# Altium integrated library Microchip PIC18.IntLib: 1897 symbols (part 31 of 110)
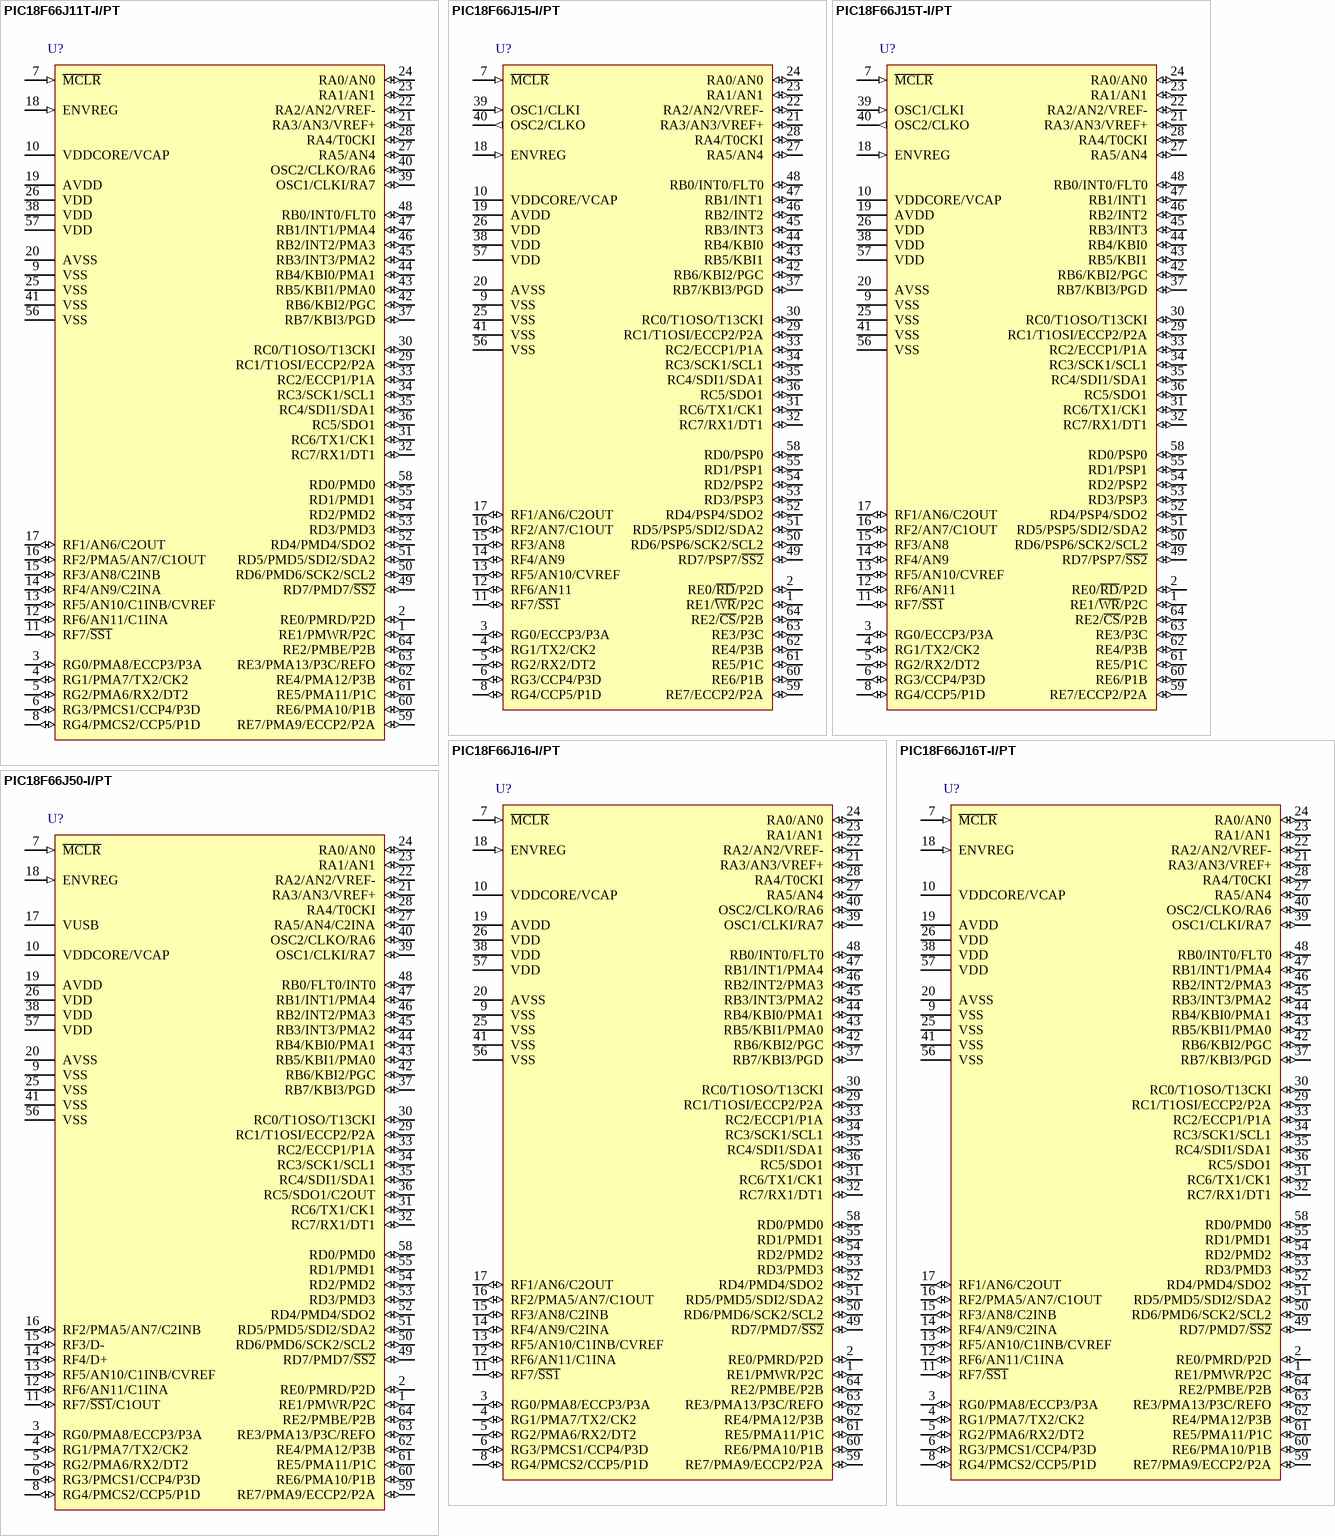
[diagram p238: symbols PIC18F66J11T-I/PT to PIC18F66J50-I/PT]

## PIC18F66J16-I/PT
designator U?
High Performance, 1-Mbit Flash Microcontroller with nanoWatt Technology, 96K Flash, 64-Pin TQFP, Industrial Temperature Range; Manufacturer: Microchip; PartNumber: PIC18F66J16-I/PT; DatasheetVersion: revD, Oct-2009; PackageVersion: C04-085B, 12/2012; PackageReference: TQFP-PT64; PackageDescription: 64-Lead Plastic Thin Quad FlatPack, 10 x 10 mm Body, 0.5 mm Pitch; ComponentLink1Description: Manufacturer URL; ComponentLink1URL: http://www.microchip.com/; ComponentLink2Description: Datasheet; ComponentLink2URL: http://ww1.microchip.com/downloads/en/DeviceDoc/39778d.pdf; ComponentLink3Description: Package Specification; ComponentLink3URL: http://www.microchip.com/stellent/groups/techpub_sg/documents/packagingspec/en012702.pdf
footprint MCHP-TQFP-PT64_N (TQFP, 64-Leads, Body 10x10mm, Pitch 0.5mm, IPC Medium Density)
footprint MCHP-TQFP-PT64_L (TQFP, 64-Leads, Body 10x10mm, Pitch 0.5mm, IPC High Density)
footprint MCHP-TQFP-PT64_M (TQFP, 64-Leads, Body 10x10mm, Pitch 0.5mm, IPC Low Density)
pins: 1 RE1/PMWR/P2C (io), 2 RE0/PMRD/P2D (io), 3 RG0/PMA8/ECCP3/P3A (io), 4 RG1/PMA7/TX2/CK2 (io), 5 RG2/PMA6/RX2/DT2 (io), 6 RG3/PMCS1/CCP4/P3D (io), 7 ~{MCLR} (in), 8 RG4/PMCS2/CCP5/P1D (io), 9 VSS (power), 10 VDDCORE/VCAP (power), 11 RF7/~{SS1} (io), 12 RF6/AN11/C1INA (io), 13 RF5/AN10/C1INB/CVREF (io), 14 RF4/AN9/C2INA (io), 15 RF3/AN8/C2INB (io), 16 RF2/PMA5/AN7/C1OUT (io), 17 RF1/AN6/C2OUT (io), 18 ENVREG (in), 19 AVDD (power), 20 AVSS (power), 21 RA3/AN3/VREF+ (io), 22 RA2/AN2/VREF- (io), 23 RA1/AN1 (io), 24 RA0/AN0 (io), 25 VSS (power), 26 VDD (power), 27 RA5/AN4 (io), 28 RA4/T0CKI (io), 29 RC1/T1OSI/ECCP2/P2A (io), 30 RC0/T1OSO/T13CKI (io), 31 RC6/TX1/CK1 (io), 32 RC7/RX1/DT1 (io), 33 RC2/ECCP1/P1A (io), 34 RC3/SCK1/SCL1 (io), 35 RC4/SDI1/SDA1 (io), 36 RC5/SDO1 (io), 37 RB7/KBI3/PGD (io), 38 VDD (power), 39 OSC1/CLKI/RA7 (io), 40 OSC2/CLKO/RA6 (io), 41 VSS (power), 42 RB6/KBI2/PGC (io), 43 RB5/KBI1/PMA0 (io), 44 RB4/KBI0/PMA1 (io), 45 RB3/INT3/PMA2 (io), 46 RB2/INT2/PMA3 (io), 47 RB1/INT1/PMA4 (io), 48 RB0/INT0/FLT0 (io), 49 RD7/PMD7/~{SS2} (io), 50 RD6/PMD6/SCK2/SCL2 (io), 51 RD5/PMD5/SDI2/SDA2 (io), 52 RD4/PMD4/SDO2 (io), 53 RD3/PMD3 (io), 54 RD2/PMD2 (io), 55 RD1/PMD1 (io), 56 VSS (power), 57 VDD (power), 58 RD0/PMD0 (io), 59 RE7/PMA9/ECCP2/P2A (io), 60 RE6/PMA10/P1B (io), 61 RE5/PMA11/P1C (io), 62 RE4/PMA12/P3B (io), 63 RE3/PMA13/P3C/REFO (io), 64 RE2/PMBE/P2B (io)

## PIC18F66J16T-I/PT
designator U?
High Performance, 1-Mbit Flash Microcontroller with nanoWatt Technology, 96K Flash, 64-Pin TQFP, Industrial Temperature Range, Tape and Reel; Manufacturer: Microchip; PartNumber: PIC18F66J16T-I/PT; DatasheetVersion: revD, Oct-2009; PackageVersion: C04-085B, 12/2012; PackageReference: TQFP-PT64; PackageDescription: 64-Lead Plastic Thin Quad FlatPack, 10 x 10 mm Body, 0.5 mm Pitch; ComponentLink1Description: Manufacturer URL; ComponentLink1URL: http://www.microchip.com/; ComponentLink2Description: Datasheet; ComponentLink2URL: http://ww1.microchip.com/downloads/en/DeviceDoc/39778d.pdf; ComponentLink3Description: Package Specification; ComponentLink3URL: http://www.microchip.com/stellent/groups/techpub_sg/documents/packagingspec/en012702.pdf
footprint MCHP-TQFP-PT64_N (TQFP, 64-Leads, Body 10x10mm, Pitch 0.5mm, IPC Medium Density)
footprint MCHP-TQFP-PT64_L (TQFP, 64-Leads, Body 10x10mm, Pitch 0.5mm, IPC High Density)
footprint MCHP-TQFP-PT64_M (TQFP, 64-Leads, Body 10x10mm, Pitch 0.5mm, IPC Low Density)
pins: 1 RE1/PMWR/P2C (io), 2 RE0/PMRD/P2D (io), 3 RG0/PMA8/ECCP3/P3A (io), 4 RG1/PMA7/TX2/CK2 (io), 5 RG2/PMA6/RX2/DT2 (io), 6 RG3/PMCS1/CCP4/P3D (io), 7 ~{MCLR} (in), 8 RG4/PMCS2/CCP5/P1D (io), 9 VSS (power), 10 VDDCORE/VCAP (power), 11 RF7/~{SS1} (io), 12 RF6/AN11/C1INA (io), 13 RF5/AN10/C1INB/CVREF (io), 14 RF4/AN9/C2INA (io), 15 RF3/AN8/C2INB (io), 16 RF2/PMA5/AN7/C1OUT (io), 17 RF1/AN6/C2OUT (io), 18 ENVREG (in), 19 AVDD (power), 20 AVSS (power), 21 RA3/AN3/VREF+ (io), 22 RA2/AN2/VREF- (io), 23 RA1/AN1 (io), 24 RA0/AN0 (io), 25 VSS (power), 26 VDD (power), 27 RA5/AN4 (io), 28 RA4/T0CKI (io), 29 RC1/T1OSI/ECCP2/P2A (io), 30 RC0/T1OSO/T13CKI (io), 31 RC6/TX1/CK1 (io), 32 RC7/RX1/DT1 (io), 33 RC2/ECCP1/P1A (io), 34 RC3/SCK1/SCL1 (io), 35 RC4/SDI1/SDA1 (io), 36 RC5/SDO1 (io), 37 RB7/KBI3/PGD (io), 38 VDD (power), 39 OSC1/CLKI/RA7 (io), 40 OSC2/CLKO/RA6 (io), 41 VSS (power), 42 RB6/KBI2/PGC (io), 43 RB5/KBI1/PMA0 (io), 44 RB4/KBI0/PMA1 (io), 45 RB3/INT3/PMA2 (io), 46 RB2/INT2/PMA3 (io), 47 RB1/INT1/PMA4 (io), 48 RB0/INT0/FLT0 (io), 49 RD7/PMD7/~{SS2} (io), 50 RD6/PMD6/SCK2/SCL2 (io), 51 RD5/PMD5/SDI2/SDA2 (io), 52 RD4/PMD4/SDO2 (io), 53 RD3/PMD3 (io), 54 RD2/PMD2 (io), 55 RD1/PMD1 (io), 56 VSS (power), 57 VDD (power), 58 RD0/PMD0 (io), 59 RE7/PMA9/ECCP2/P2A (io), 60 RE6/PMA10/P1B (io), 61 RE5/PMA11/P1C (io), 62 RE4/PMA12/P3B (io), 63 RE3/PMA13/P3C/REFO (io), 64 RE2/PMBE/P2B (io)

## PIC18F66J50-I/PT
designator U?
High Performance, 1-Mbit Flash USB Microcontroller with nanoWatt Technology, 64K Flash, 64-Pin TQFP, Industrial Temperature Range; Manufacturer: Microchip; PartNumber: PIC18F66J50-I/PT; DatasheetVersion: revC, Oct-2009; PackageVersion: C04-085B, 12/2012; PackageReference: TQFP-PT64; PackageDescription: 64-Lead Plastic Thin Quad FlatPack, 10 x 10 mm Body, 0.5 mm Pitch; ComponentLink1Description: Manufacturer URL; ComponentLink1URL: http://www.microchip.com/; ComponentLink2Description: Datasheet; ComponentLink2URL: http://ww1.microchip.com/downloads/en/DeviceDoc/39775c.pdf; ComponentLink3Description: Package Specification; ComponentLink3URL: http://www.microchip.com/stellent/groups/techpub_sg/documents/packagingspec/en012702.pdf
footprint MCHP-TQFP-PT64_N (TQFP, 64-Leads, Body 10x10mm, Pitch 0.5mm, IPC Medium Density)
footprint MCHP-TQFP-PT64_L (TQFP, 64-Leads, Body 10x10mm, Pitch 0.5mm, IPC High Density)
footprint MCHP-TQFP-PT64_M (TQFP, 64-Leads, Body 10x10mm, Pitch 0.5mm, IPC Low Density)
pins: 1 RE1/PMWR/P2C (io), 2 RE0/PMRD/P2D (io), 3 RG0/PMA8/ECCP3/P3A (io), 4 RG1/PMA7/TX2/CK2 (io), 5 RG2/PMA6/RX2/DT2 (io), 6 RG3/PMCS1/CCP4/P3D (io), 7 ~{MCLR} (in), 8 RG4/PMCS2/CCP5/P1D (io), 9 VSS (power), 10 VDDCORE/VCAP (power), 11 RF7/~{SS1}/C1OUT (io), 12 RF6/AN11/C1INA (io), 13 RF5/AN10/C1INB/CVREF (io), 14 RF4/D+ (io), 15 RF3/D- (io), 16 RF2/PMA5/AN7/C2INB (io), 17 VUSB (power), 18 ENVREG (in), 19 AVDD (power), 20 AVSS (power), 21 RA3/AN3/VREF+ (io), 22 RA2/AN2/VREF- (io), 23 RA1/AN1 (io), 24 RA0/AN0 (io), 25 VSS (power), 26 VDD (power), 27 RA5/AN4/C2INA (io), 28 RA4/T0CKI (io), 29 RC1/T1OSI/ECCP2/P2A (io), 30 RC0/T1OSO/T13CKI (io), 31 RC6/TX1/CK1 (io), 32 RC7/RX1/DT1 (io), 33 RC2/ECCP1/P1A (io), 34 RC3/SCK1/SCL1 (io), 35 RC4/SDI1/SDA1 (io), 36 RC5/SDO1/C2OUT (io), 37 RB7/KBI3/PGD (io), 38 VDD (power), 39 OSC1/CLKI/RA7 (io), 40 OSC2/CLKO/RA6 (io), 41 VSS (power), 42 RB6/KBI2/PGC (io), 43 RB5/KBI1/PMA0 (io), 44 RB4/KBI0/PMA1 (io), 45 RB3/INT3/PMA2 (io), 46 RB2/INT2/PMA3 (io), 47 RB1/INT1/PMA4 (io), 48 RB0/FLT0/INT0 (io), 49 RD7/PMD7/~{SS2} (io), 50 RD6/PMD6/SCK2/SCL2 (io), 51 RD5/PMD5/SDI2/SDA2 (io), 52 RD4/PMD4/SDO2 (io), 53 RD3/PMD3 (io), 54 RD2/PMD2 (io), 55 RD1/PMD1 (io), 56 VSS (power), 57 VDD (power), 58 RD0/PMD0 (io), 59 RE7/PMA9/ECCP2/P2A (io), 60 RE6/PMA10/P1B (io), 61 RE5/PMA11/P1C (io), 62 RE4/PMA12/P3B (io), 63 RE3/PMA13/P3C/REFO (io), 64 RE2/PMBE/P2B (io)

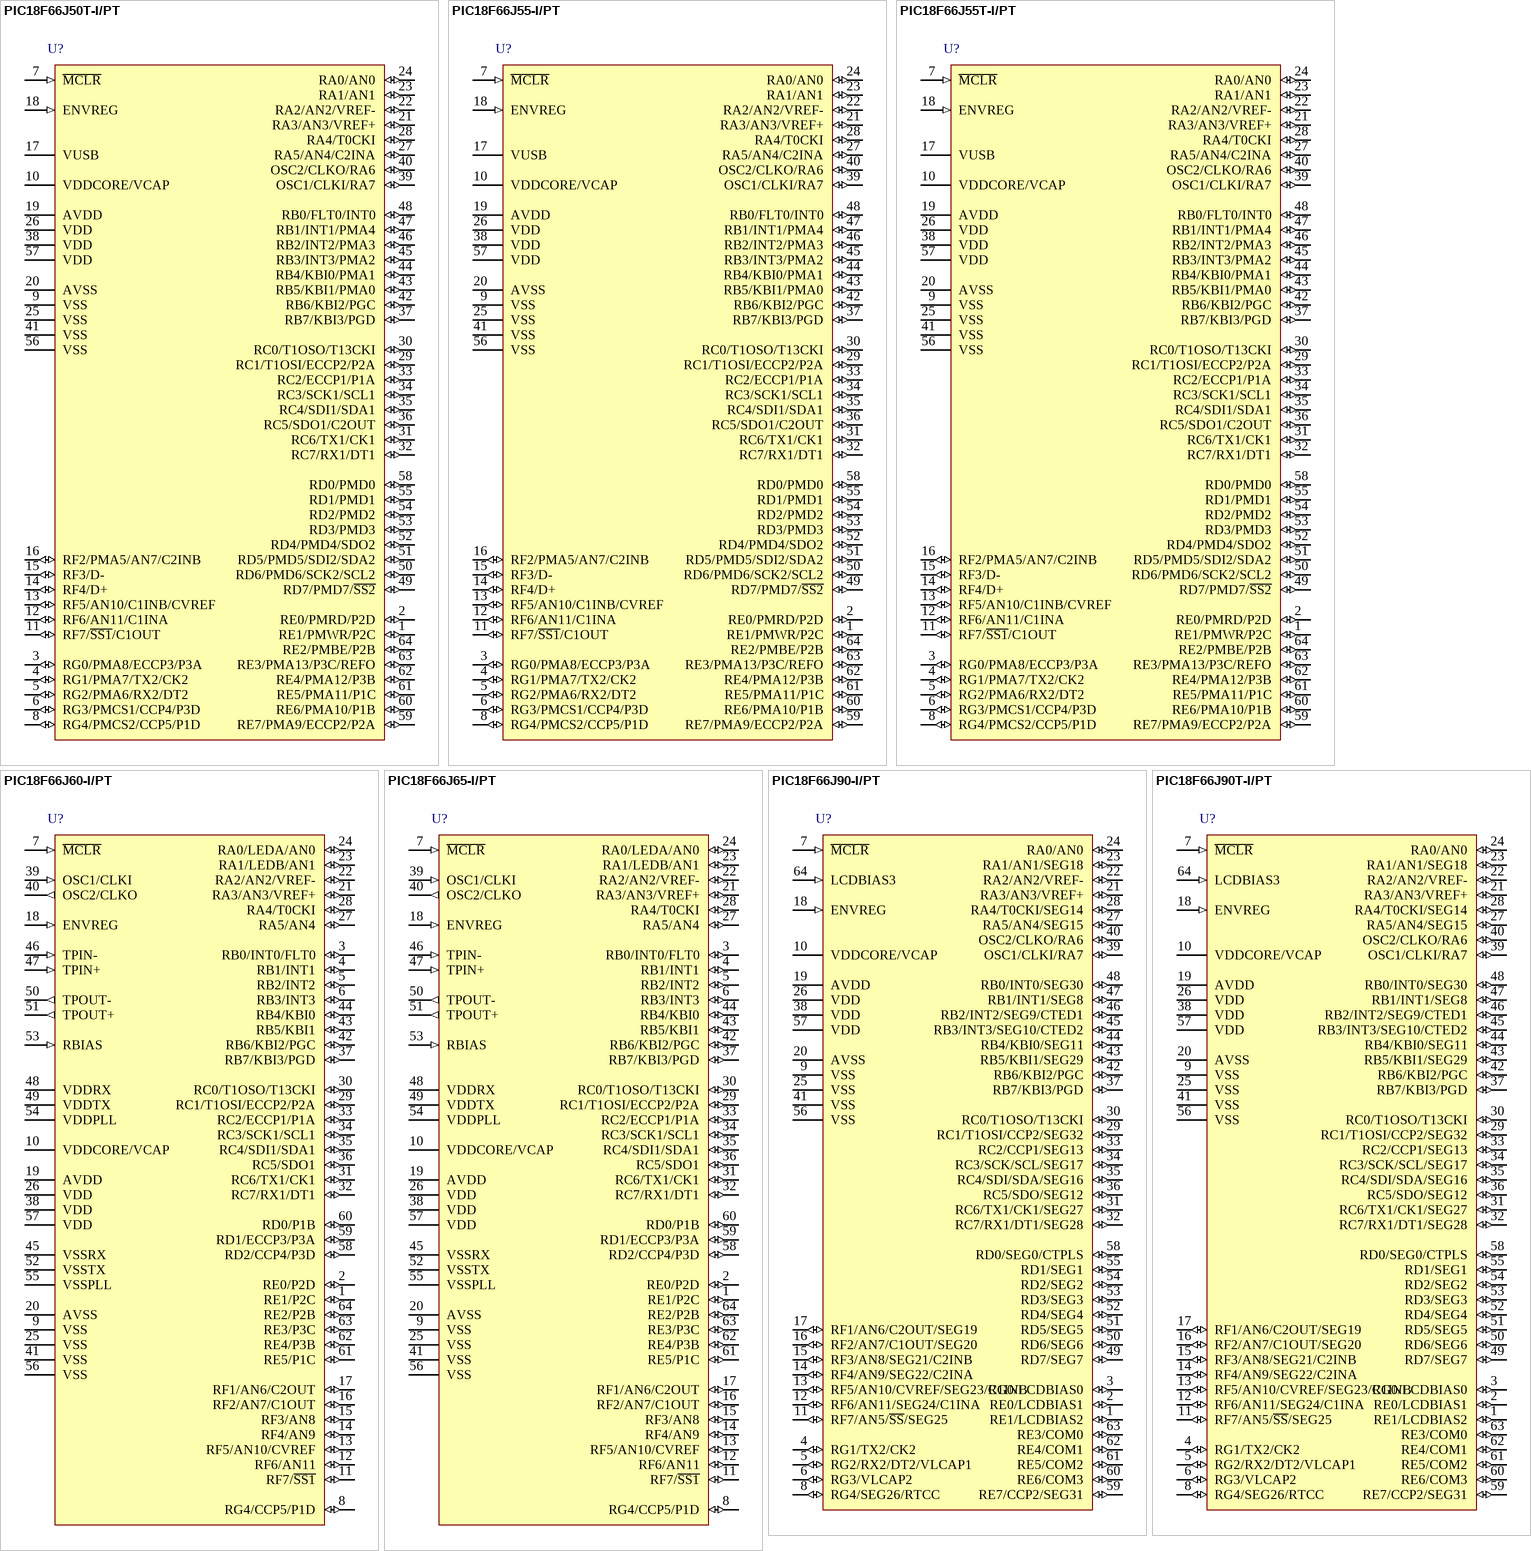
[diagram p50: symbols PIC18F66J50T-I/PT to PIC18F66J90T-I/PT]

## PIC18F66J50T-I/PT
designator U?
High Performance, 1-Mbit Flash USB Microcontroller with nanoWatt Technology, 64K Flash, 64-Pin TQFP, Industrial Temperature Range, Tape and Reel; Manufacturer: Microchip; PartNumber: PIC18F66J50T-I/PT; DatasheetVersion: revC, Oct-2009; PackageVersion: C04-085B, 12/2012; PackageReference: TQFP-PT64; PackageDescription: 64-Lead Plastic Thin Quad FlatPack, 10 x 10 mm Body, 0.5 mm Pitch; ComponentLink1Description: Manufacturer URL; ComponentLink1URL: http://www.microchip.com/; ComponentLink2Description: Datasheet; ComponentLink2URL: http://ww1.microchip.com/downloads/en/DeviceDoc/39775c.pdf; ComponentLink3Description: Package Specification; ComponentLink3URL: http://www.microchip.com/stellent/groups/techpub_sg/documents/packagingspec/en012702.pdf
footprint MCHP-TQFP-PT64_N (TQFP, 64-Leads, Body 10x10mm, Pitch 0.5mm, IPC Medium Density)
footprint MCHP-TQFP-PT64_L (TQFP, 64-Leads, Body 10x10mm, Pitch 0.5mm, IPC High Density)
footprint MCHP-TQFP-PT64_M (TQFP, 64-Leads, Body 10x10mm, Pitch 0.5mm, IPC Low Density)
pins: 1 RE1/PMWR/P2C (io), 2 RE0/PMRD/P2D (io), 3 RG0/PMA8/ECCP3/P3A (io), 4 RG1/PMA7/TX2/CK2 (io), 5 RG2/PMA6/RX2/DT2 (io), 6 RG3/PMCS1/CCP4/P3D (io), 7 ~{MCLR} (in), 8 RG4/PMCS2/CCP5/P1D (io), 9 VSS (power), 10 VDDCORE/VCAP (power), 11 RF7/~{SS1}/C1OUT (io), 12 RF6/AN11/C1INA (io), 13 RF5/AN10/C1INB/CVREF (io), 14 RF4/D+ (io), 15 RF3/D- (io), 16 RF2/PMA5/AN7/C2INB (io), 17 VUSB (power), 18 ENVREG (in), 19 AVDD (power), 20 AVSS (power), 21 RA3/AN3/VREF+ (io), 22 RA2/AN2/VREF- (io), 23 RA1/AN1 (io), 24 RA0/AN0 (io), 25 VSS (power), 26 VDD (power), 27 RA5/AN4/C2INA (io), 28 RA4/T0CKI (io), 29 RC1/T1OSI/ECCP2/P2A (io), 30 RC0/T1OSO/T13CKI (io), 31 RC6/TX1/CK1 (io), 32 RC7/RX1/DT1 (io), 33 RC2/ECCP1/P1A (io), 34 RC3/SCK1/SCL1 (io), 35 RC4/SDI1/SDA1 (io), 36 RC5/SDO1/C2OUT (io), 37 RB7/KBI3/PGD (io), 38 VDD (power), 39 OSC1/CLKI/RA7 (io), 40 OSC2/CLKO/RA6 (io), 41 VSS (power), 42 RB6/KBI2/PGC (io), 43 RB5/KBI1/PMA0 (io), 44 RB4/KBI0/PMA1 (io), 45 RB3/INT3/PMA2 (io), 46 RB2/INT2/PMA3 (io), 47 RB1/INT1/PMA4 (io), 48 RB0/FLT0/INT0 (io), 49 RD7/PMD7/~{SS2} (io), 50 RD6/PMD6/SCK2/SCL2 (io), 51 RD5/PMD5/SDI2/SDA2 (io), 52 RD4/PMD4/SDO2 (io), 53 RD3/PMD3 (io), 54 RD2/PMD2 (io), 55 RD1/PMD1 (io), 56 VSS (power), 57 VDD (power), 58 RD0/PMD0 (io), 59 RE7/PMA9/ECCP2/P2A (io), 60 RE6/PMA10/P1B (io), 61 RE5/PMA11/P1C (io), 62 RE4/PMA12/P3B (io), 63 RE3/PMA13/P3C/REFO (io), 64 RE2/PMBE/P2B (io)

## PIC18F66J55-I/PT
designator U?
High Performance, 1-Mbit Flash USB Microcontroller with nanoWatt Technology, 96K Flash, 64-Pin TQFP, Industrial Temperature Range; Manufacturer: Microchip; PartNumber: PIC18F66J55-I/PT; DatasheetVersion: revC, Oct-2009; PackageVersion: C04-085B, 12/2012; PackageReference: TQFP-PT64; PackageDescription: 64-Lead Plastic Thin Quad FlatPack, 10 x 10 mm Body, 0.5 mm Pitch; ComponentLink1Description: Manufacturer URL; ComponentLink1URL: http://www.microchip.com/; ComponentLink2Description: Datasheet; ComponentLink2URL: http://ww1.microchip.com/downloads/en/DeviceDoc/39775c.pdf; ComponentLink3Description: Package Specification; ComponentLink3URL: http://www.microchip.com/stellent/groups/techpub_sg/documents/packagingspec/en012702.pdf
footprint MCHP-TQFP-PT64_N (TQFP, 64-Leads, Body 10x10mm, Pitch 0.5mm, IPC Medium Density)
footprint MCHP-TQFP-PT64_L (TQFP, 64-Leads, Body 10x10mm, Pitch 0.5mm, IPC High Density)
footprint MCHP-TQFP-PT64_M (TQFP, 64-Leads, Body 10x10mm, Pitch 0.5mm, IPC Low Density)
pins: 1 RE1/PMWR/P2C (io), 2 RE0/PMRD/P2D (io), 3 RG0/PMA8/ECCP3/P3A (io), 4 RG1/PMA7/TX2/CK2 (io), 5 RG2/PMA6/RX2/DT2 (io), 6 RG3/PMCS1/CCP4/P3D (io), 7 ~{MCLR} (in), 8 RG4/PMCS2/CCP5/P1D (io), 9 VSS (power), 10 VDDCORE/VCAP (power), 11 RF7/~{SS1}/C1OUT (io), 12 RF6/AN11/C1INA (io), 13 RF5/AN10/C1INB/CVREF (io), 14 RF4/D+ (io), 15 RF3/D- (io), 16 RF2/PMA5/AN7/C2INB (io), 17 VUSB (power), 18 ENVREG (in), 19 AVDD (power), 20 AVSS (power), 21 RA3/AN3/VREF+ (io), 22 RA2/AN2/VREF- (io), 23 RA1/AN1 (io), 24 RA0/AN0 (io), 25 VSS (power), 26 VDD (power), 27 RA5/AN4/C2INA (io), 28 RA4/T0CKI (io), 29 RC1/T1OSI/ECCP2/P2A (io), 30 RC0/T1OSO/T13CKI (io), 31 RC6/TX1/CK1 (io), 32 RC7/RX1/DT1 (io), 33 RC2/ECCP1/P1A (io), 34 RC3/SCK1/SCL1 (io), 35 RC4/SDI1/SDA1 (io), 36 RC5/SDO1/C2OUT (io), 37 RB7/KBI3/PGD (io), 38 VDD (power), 39 OSC1/CLKI/RA7 (io), 40 OSC2/CLKO/RA6 (io), 41 VSS (power), 42 RB6/KBI2/PGC (io), 43 RB5/KBI1/PMA0 (io), 44 RB4/KBI0/PMA1 (io), 45 RB3/INT3/PMA2 (io), 46 RB2/INT2/PMA3 (io), 47 RB1/INT1/PMA4 (io), 48 RB0/FLT0/INT0 (io), 49 RD7/PMD7/~{SS2} (io), 50 RD6/PMD6/SCK2/SCL2 (io), 51 RD5/PMD5/SDI2/SDA2 (io), 52 RD4/PMD4/SDO2 (io), 53 RD3/PMD3 (io), 54 RD2/PMD2 (io), 55 RD1/PMD1 (io), 56 VSS (power), 57 VDD (power), 58 RD0/PMD0 (io), 59 RE7/PMA9/ECCP2/P2A (io), 60 RE6/PMA10/P1B (io), 61 RE5/PMA11/P1C (io), 62 RE4/PMA12/P3B (io), 63 RE3/PMA13/P3C/REFO (io), 64 RE2/PMBE/P2B (io)

## PIC18F66J55T-I/PT
designator U?
High Performance, 1-Mbit Flash USB Microcontroller with nanoWatt Technology, 96K Flash, 64-Pin TQFP, Industrial Temperature Range, Tape and Reel; Manufacturer: Microchip; PartNumber: PIC18F66J55T-I/PT; DatasheetVersion: revC, Oct-2009; PackageVersion: C04-085B, 12/2012; PackageReference: TQFP-PT64; PackageDescription: 64-Lead Plastic Thin Quad FlatPack, 10 x 10 mm Body, 0.5 mm Pitch; ComponentLink1Description: Manufacturer URL; ComponentLink1URL: http://www.microchip.com/; ComponentLink2Description: Datasheet; ComponentLink2URL: http://ww1.microchip.com/downloads/en/DeviceDoc/39775c.pdf; ComponentLink3Description: Package Specification; ComponentLink3URL: http://www.microchip.com/stellent/groups/techpub_sg/documents/packagingspec/en012702.pdf
footprint MCHP-TQFP-PT64_N (TQFP, 64-Leads, Body 10x10mm, Pitch 0.5mm, IPC Medium Density)
footprint MCHP-TQFP-PT64_L (TQFP, 64-Leads, Body 10x10mm, Pitch 0.5mm, IPC High Density)
footprint MCHP-TQFP-PT64_M (TQFP, 64-Leads, Body 10x10mm, Pitch 0.5mm, IPC Low Density)
pins: 1 RE1/PMWR/P2C (io), 2 RE0/PMRD/P2D (io), 3 RG0/PMA8/ECCP3/P3A (io), 4 RG1/PMA7/TX2/CK2 (io), 5 RG2/PMA6/RX2/DT2 (io), 6 RG3/PMCS1/CCP4/P3D (io), 7 ~{MCLR} (in), 8 RG4/PMCS2/CCP5/P1D (io), 9 VSS (power), 10 VDDCORE/VCAP (power), 11 RF7/~{SS1}/C1OUT (io), 12 RF6/AN11/C1INA (io), 13 RF5/AN10/C1INB/CVREF (io), 14 RF4/D+ (io), 15 RF3/D- (io), 16 RF2/PMA5/AN7/C2INB (io), 17 VUSB (power), 18 ENVREG (in), 19 AVDD (power), 20 AVSS (power), 21 RA3/AN3/VREF+ (io), 22 RA2/AN2/VREF- (io), 23 RA1/AN1 (io), 24 RA0/AN0 (io), 25 VSS (power), 26 VDD (power), 27 RA5/AN4/C2INA (io), 28 RA4/T0CKI (io), 29 RC1/T1OSI/ECCP2/P2A (io), 30 RC0/T1OSO/T13CKI (io), 31 RC6/TX1/CK1 (io), 32 RC7/RX1/DT1 (io), 33 RC2/ECCP1/P1A (io), 34 RC3/SCK1/SCL1 (io), 35 RC4/SDI1/SDA1 (io), 36 RC5/SDO1/C2OUT (io), 37 RB7/KBI3/PGD (io), 38 VDD (power), 39 OSC1/CLKI/RA7 (io), 40 OSC2/CLKO/RA6 (io), 41 VSS (power), 42 RB6/KBI2/PGC (io), 43 RB5/KBI1/PMA0 (io), 44 RB4/KBI0/PMA1 (io), 45 RB3/INT3/PMA2 (io), 46 RB2/INT2/PMA3 (io), 47 RB1/INT1/PMA4 (io), 48 RB0/FLT0/INT0 (io), 49 RD7/PMD7/~{SS2} (io), 50 RD6/PMD6/SCK2/SCL2 (io), 51 RD5/PMD5/SDI2/SDA2 (io), 52 RD4/PMD4/SDO2 (io), 53 RD3/PMD3 (io), 54 RD2/PMD2 (io), 55 RD1/PMD1 (io), 56 VSS (power), 57 VDD (power), 58 RD0/PMD0 (io), 59 RE7/PMA9/ECCP2/P2A (io), 60 RE6/PMA10/P1B (io), 61 RE5/PMA11/P1C (io), 62 RE4/PMA12/P3B (io), 63 RE3/PMA13/P3C/REFO (io), 64 RE2/PMBE/P2B (io)

## PIC18F66J60-I/PT
designator U?
High Performance, 1-Mbit Flash Microcontroller with Ethernet, 64K Flash, 64-Pin TQFP, Industrial Temperature Range; Manufacturer: Microchip; PartNumber: PIC18F66J60-I/PT; DatasheetVersion: revE, Oct-2009; PackageVersion: C04-085B, 12/2012; PackageReference: TQFP-PT64; PackageDescription: 64-Lead Plastic Thin Quad FlatPack, 10 x 10 mm Body, 0.5 mm Pitch; ComponentLink1Description: Manufacturer URL; ComponentLink1URL: http://www.microchip.com/; ComponentLink2Description: Datasheet; ComponentLink2URL: http://ww1.microchip.com/downloads/en/DeviceDoc/39762e.pdf; ComponentLink3Description: Package Specification; ComponentLink3URL: http://www.microchip.com/stellent/groups/techpub_sg/documents/packagingspec/en012702.pdf
footprint MCHP-TQFP-PT64_N (TQFP, 64-Leads, Body 10x10mm, Pitch 0.5mm, IPC Medium Density)
footprint MCHP-TQFP-PT64_L (TQFP, 64-Leads, Body 10x10mm, Pitch 0.5mm, IPC High Density)
footprint MCHP-TQFP-PT64_M (TQFP, 64-Leads, Body 10x10mm, Pitch 0.5mm, IPC Low Density)
pins: 1 RE1/P2C (io), 2 RE0/P2D (io), 3 RB0/INT0/FLT0 (io), 4 RB1/INT1 (io), 5 RB2/INT2 (io), 6 RB3/INT3 (io), 7 ~{MCLR} (in), 8 RG4/CCP5/P1D (io), 9 VSS (power), 10 VDDCORE/VCAP (power), 11 RF7/~{SS1} (io), 12 RF6/AN11 (io), 13 RF5/AN10/CVREF (io), 14 RF4/AN9 (io), 15 RF3/AN8 (io), 16 RF2/AN7/C1OUT (io), 17 RF1/AN6/C2OUT (io), 18 ENVREG (in), 19 AVDD (power), 20 AVSS (power), 21 RA3/AN3/VREF+ (io), 22 RA2/AN2/VREF- (io), 23 RA1/LEDB/AN1 (io), 24 RA0/LEDA/AN0 (io), 25 VSS (power), 26 VDD (power), 27 RA5/AN4 (io), 28 RA4/T0CKI (io), 29 RC1/T1OSI/ECCP2/P2A (io), 30 RC0/T1OSO/T13CKI (io), 31 RC6/TX1/CK1 (io), 32 RC7/RX1/DT1 (io), 33 RC2/ECCP1/P1A (io), 34 RC3/SCK1/SCL1 (io), 35 RC4/SDI1/SDA1 (io), 36 RC5/SDO1 (io), 37 RB7/KBI3/PGD (io), 38 VDD (power), 39 OSC1/CLKI (in), 40 OSC2/CLKO (out), 41 VSS (power), 42 RB6/KBI2/PGC (io), 43 RB5/KBI1 (io), 44 RB4/KBI0 (io), 45 VSSRX (power), 46 TPIN- (in), 47 TPIN+ (in), 48 VDDRX (power), 49 VDDTX (power), 50 TPOUT- (out), 51 TPOUT+ (out), 52 VSSTX (power), 53 RBIAS (in), 54 VDDPLL (power), 55 VSSPLL (power), 56 VSS (power), 57 VDD (power), 58 RD2/CCP4/P3D (io), 59 RD1/ECCP3/P3A (io), 60 RD0/P1B (io), 61 RE5/P1C (io), 62 RE4/P3B (io), 63 RE3/P3C (io), 64 RE2/P2B (io)

## PIC18F66J65-I/PT
designator U?
High Performance, 1-Mbit Flash Microcontroller with Ethernet, 96K Flash, 64-Pin TQFP, Industrial Temperature Range; Manufacturer: Microchip; PartNumber: PIC18F66J65-I/PT; DatasheetVersion: revE, Oct-2009; PackageVersion: C04-085B, 12/2012; PackageReference: TQFP-PT64; PackageDescription: 64-Lead Plastic Thin Quad FlatPack, 10 x 10 mm Body, 0.5 mm Pitch; ComponentLink1Description: Manufacturer URL; ComponentLink1URL: http://www.microchip.com/; ComponentLink2Description: Datasheet; ComponentLink2URL: http://ww1.microchip.com/downloads/en/DeviceDoc/39762e.pdf; ComponentLink3Description: Package Specification; ComponentLink3URL: http://www.microchip.com/stellent/groups/techpub_sg/documents/packagingspec/en012702.pdf
footprint MCHP-TQFP-PT64_N (TQFP, 64-Leads, Body 10x10mm, Pitch 0.5mm, IPC Medium Density)
footprint MCHP-TQFP-PT64_L (TQFP, 64-Leads, Body 10x10mm, Pitch 0.5mm, IPC High Density)
footprint MCHP-TQFP-PT64_M (TQFP, 64-Leads, Body 10x10mm, Pitch 0.5mm, IPC Low Density)
pins: 1 RE1/P2C (io), 2 RE0/P2D (io), 3 RB0/INT0/FLT0 (io), 4 RB1/INT1 (io), 5 RB2/INT2 (io), 6 RB3/INT3 (io), 7 ~{MCLR} (in), 8 RG4/CCP5/P1D (io), 9 VSS (power), 10 VDDCORE/VCAP (power), 11 RF7/~{SS1} (io), 12 RF6/AN11 (io), 13 RF5/AN10/CVREF (io), 14 RF4/AN9 (io), 15 RF3/AN8 (io), 16 RF2/AN7/C1OUT (io), 17 RF1/AN6/C2OUT (io), 18 ENVREG (in), 19 AVDD (power), 20 AVSS (power), 21 RA3/AN3/VREF+ (io), 22 RA2/AN2/VREF- (io), 23 RA1/LEDB/AN1 (io), 24 RA0/LEDA/AN0 (io), 25 VSS (power), 26 VDD (power), 27 RA5/AN4 (io), 28 RA4/T0CKI (io), 29 RC1/T1OSI/ECCP2/P2A (io), 30 RC0/T1OSO/T13CKI (io), 31 RC6/TX1/CK1 (io), 32 RC7/RX1/DT1 (io), 33 RC2/ECCP1/P1A (io), 34 RC3/SCK1/SCL1 (io), 35 RC4/SDI1/SDA1 (io), 36 RC5/SDO1 (io), 37 RB7/KBI3/PGD (io), 38 VDD (power), 39 OSC1/CLKI (in), 40 OSC2/CLKO (out), 41 VSS (power), 42 RB6/KBI2/PGC (io), 43 RB5/KBI1 (io), 44 RB4/KBI0 (io), 45 VSSRX (power), 46 TPIN- (in), 47 TPIN+ (in), 48 VDDRX (power), 49 VDDTX (power), 50 TPOUT- (out), 51 TPOUT+ (out), 52 VSSTX (power), 53 RBIAS (in), 54 VDDPLL (power), 55 VSSPLL (power), 56 VSS (power), 57 VDD (power), 58 RD2/CCP4/P3D (io), 59 RD1/ECCP3/P3A (io), 60 RD0/P1B (io), 61 RE5/P1C (io), 62 RE4/P3B (io), 63 RE3/P3C (io), 64 RE2/P2B (io)

## PIC18F66J90-I/PT
designator U?
High Performance Microcontroller with LCD Driver and nanoWatt Technology, 64-pin TQFP, Industrial Temperature; Manufacturer: Microchip; PartNumber: PIC18F66J90-I/PT; DatasheetVersion: revC, Feb-2009; PackageVersion: C04-085B, 12/2012; PackageReference: TQFP-PT64; PackageDescription: 64-Lead Plastic Thin Quad FlatPack, 10 x 10 mm Body, 0.5 mm Pitch; ComponentLink1Description: Manufacturer URL; ComponentLink1URL: http://www.microchip.com/; ComponentLink2Description: Datasheet; ComponentLink2URL: http://ww1.microchip.com/downloads/en/DeviceDoc/39933C.pdf; ComponentLink3Description: Package Specification; ComponentLink3URL: http://www.microchip.com/stellent/groups/techpub_sg/documents/packagingspec/en012702.pdf
footprint MCHP-TQFP-PT64_N (TQFP, 64-Leads, Body 10x10mm, Pitch 0.5mm, IPC Medium Density)
footprint MCHP-TQFP-PT64_L (TQFP, 64-Leads, Body 10x10mm, Pitch 0.5mm, IPC High Density)
footprint MCHP-TQFP-PT64_M (TQFP, 64-Leads, Body 10x10mm, Pitch 0.5mm, IPC Low Density)
pins: 1 RE1/LCDBIAS2 (io), 2 RE0/LCDBIAS1 (io), 3 RG0/LCDBIAS0 (io), 4 RG1/TX2/CK2 (io), 5 RG2/RX2/DT2/VLCAP1 (io), 6 RG3/VLCAP2 (io), 7 ~{MCLR} (in), 8 RG4/SEG26/RTCC (io), 9 VSS (power), 10 VDDCORE/VCAP (power), 11 RF7/AN5/~{SS}/SEG25 (io), 12 RF6/AN11/SEG24/C1INA (io), 13 RF5/AN10/CVREF/SEG23/C1INB (io), 14 RF4/AN9/SEG22/C2INA (io), 15 RF3/AN8/SEG21/C2INB (io), 16 RF2/AN7/C1OUT/SEG20 (io), 17 RF1/AN6/C2OUT/SEG19 (io), 18 ENVREG (in), 19 AVDD (power), 20 AVSS (power), 21 RA3/AN3/VREF+ (io), 22 RA2/AN2/VREF- (io), 23 RA1/AN1/SEG18 (io), 24 RA0/AN0 (io), 25 VSS (power), 26 VDD (power), 27 RA5/AN4/SEG15 (io), 28 RA4/T0CKI/SEG14 (io), 29 RC1/T1OSI/CCP2/SEG32 (io), 30 RC0/T1OSO/T13CKI (io), 31 RC6/TX1/CK1/SEG27 (io), 32 RC7/RX1/DT1/SEG28 (io), 33 RC2/CCP1/SEG13 (io), 34 RC3/SCK/SCL/SEG17 (io), 35 RC4/SDI/SDA/SEG16 (io), 36 RC5/SDO/SEG12 (io), 37 RB7/KBI3/PGD (io), 38 VDD (power), 39 OSC1/CLKI/RA7 (io), 40 OSC2/CLKO/RA6 (io), 41 VSS (power), 42 RB6/KBI2/PGC (io), 43 RB5/KBI1/SEG29 (io), 44 RB4/KBI0/SEG11 (io), 45 RB3/INT3/SEG10/CTED2 (io), 46 RB2/INT2/SEG9/CTED1 (io), 47 RB1/INT1/SEG8 (io), 48 RB0/INT0/SEG30 (io), 49 RD7/SEG7 (io), 50 RD6/SEG6 (io), 51 RD5/SEG5 (io), 52 RD4/SEG4 (io), 53 RD3/SEG3 (io), 54 RD2/SEG2 (io), 55 RD1/SEG1 (io), 56 VSS (power), 57 VDD (power), 58 RD0/SEG0/CTPLS (io), 59 RE7/CCP2/SEG31 (io), 60 RE6/COM3 (io), 61 RE5/COM2 (io), 62 RE4/COM1 (io), 63 RE3/COM0 (io), 64 LCDBIAS3 (in)

## PIC18F66J90T-I/PT
designator U?
High Performance Microcontroller with LCD Driver and nanoWatt Technology, 64-pin TQFP, Industrial Temperature, Tape and Reel; Manufacturer: Microchip; PartNumber: PIC18F66J90T-I/PT; DatasheetVersion: revC, Feb-2009; PackageVersion: C04-085B, 12/2012; PackageReference: TQFP-PT64; PackageDescription: 64-Lead Plastic Thin Quad FlatPack, 10 x 10 mm Body, 0.5 mm Pitch; ComponentLink1Description: Manufacturer URL; ComponentLink1URL: http://www.microchip.com/; ComponentLink2Description: Datasheet; ComponentLink2URL: http://ww1.microchip.com/downloads/en/DeviceDoc/39933C.pdf; ComponentLink3Description: Package Specification; ComponentLink3URL: http://www.microchip.com/stellent/groups/techpub_sg/documents/packagingspec/en012702.pdf
footprint MCHP-TQFP-PT64_N (TQFP, 64-Leads, Body 10x10mm, Pitch 0.5mm, IPC Medium Density)
footprint MCHP-TQFP-PT64_L (TQFP, 64-Leads, Body 10x10mm, Pitch 0.5mm, IPC High Density)
footprint MCHP-TQFP-PT64_M (TQFP, 64-Leads, Body 10x10mm, Pitch 0.5mm, IPC Low Density)
pins: 1 RE1/LCDBIAS2 (io), 2 RE0/LCDBIAS1 (io), 3 RG0/LCDBIAS0 (io), 4 RG1/TX2/CK2 (io), 5 RG2/RX2/DT2/VLCAP1 (io), 6 RG3/VLCAP2 (io), 7 ~{MCLR} (in), 8 RG4/SEG26/RTCC (io), 9 VSS (power), 10 VDDCORE/VCAP (power), 11 RF7/AN5/~{SS}/SEG25 (io), 12 RF6/AN11/SEG24/C1INA (io), 13 RF5/AN10/CVREF/SEG23/C1INB (io), 14 RF4/AN9/SEG22/C2INA (io), 15 RF3/AN8/SEG21/C2INB (io), 16 RF2/AN7/C1OUT/SEG20 (io), 17 RF1/AN6/C2OUT/SEG19 (io), 18 ENVREG (in), 19 AVDD (power), 20 AVSS (power), 21 RA3/AN3/VREF+ (io), 22 RA2/AN2/VREF- (io), 23 RA1/AN1/SEG18 (io), 24 RA0/AN0 (io), 25 VSS (power), 26 VDD (power), 27 RA5/AN4/SEG15 (io), 28 RA4/T0CKI/SEG14 (io), 29 RC1/T1OSI/CCP2/SEG32 (io), 30 RC0/T1OSO/T13CKI (io), 31 RC6/TX1/CK1/SEG27 (io), 32 RC7/RX1/DT1/SEG28 (io), 33 RC2/CCP1/SEG13 (io), 34 RC3/SCK/SCL/SEG17 (io), 35 RC4/SDI/SDA/SEG16 (io), 36 RC5/SDO/SEG12 (io), 37 RB7/KBI3/PGD (io), 38 VDD (power), 39 OSC1/CLKI/RA7 (io), 40 OSC2/CLKO/RA6 (io), 41 VSS (power), 42 RB6/KBI2/PGC (io), 43 RB5/KBI1/SEG29 (io), 44 RB4/KBI0/SEG11 (io), 45 RB3/INT3/SEG10/CTED2 (io), 46 RB2/INT2/SEG9/CTED1 (io), 47 RB1/INT1/SEG8 (io), 48 RB0/INT0/SEG30 (io), 49 RD7/SEG7 (io), 50 RD6/SEG6 (io), 51 RD5/SEG5 (io), 52 RD4/SEG4 (io), 53 RD3/SEG3 (io), 54 RD2/SEG2 (io), 55 RD1/SEG1 (io), 56 VSS (power), 57 VDD (power), 58 RD0/SEG0/CTPLS (io), 59 RE7/CCP2/SEG31 (io), 60 RE6/COM3 (io), 61 RE5/COM2 (io), 62 RE4/COM1 (io), 63 RE3/COM0 (io), 64 LCDBIAS3 (in)

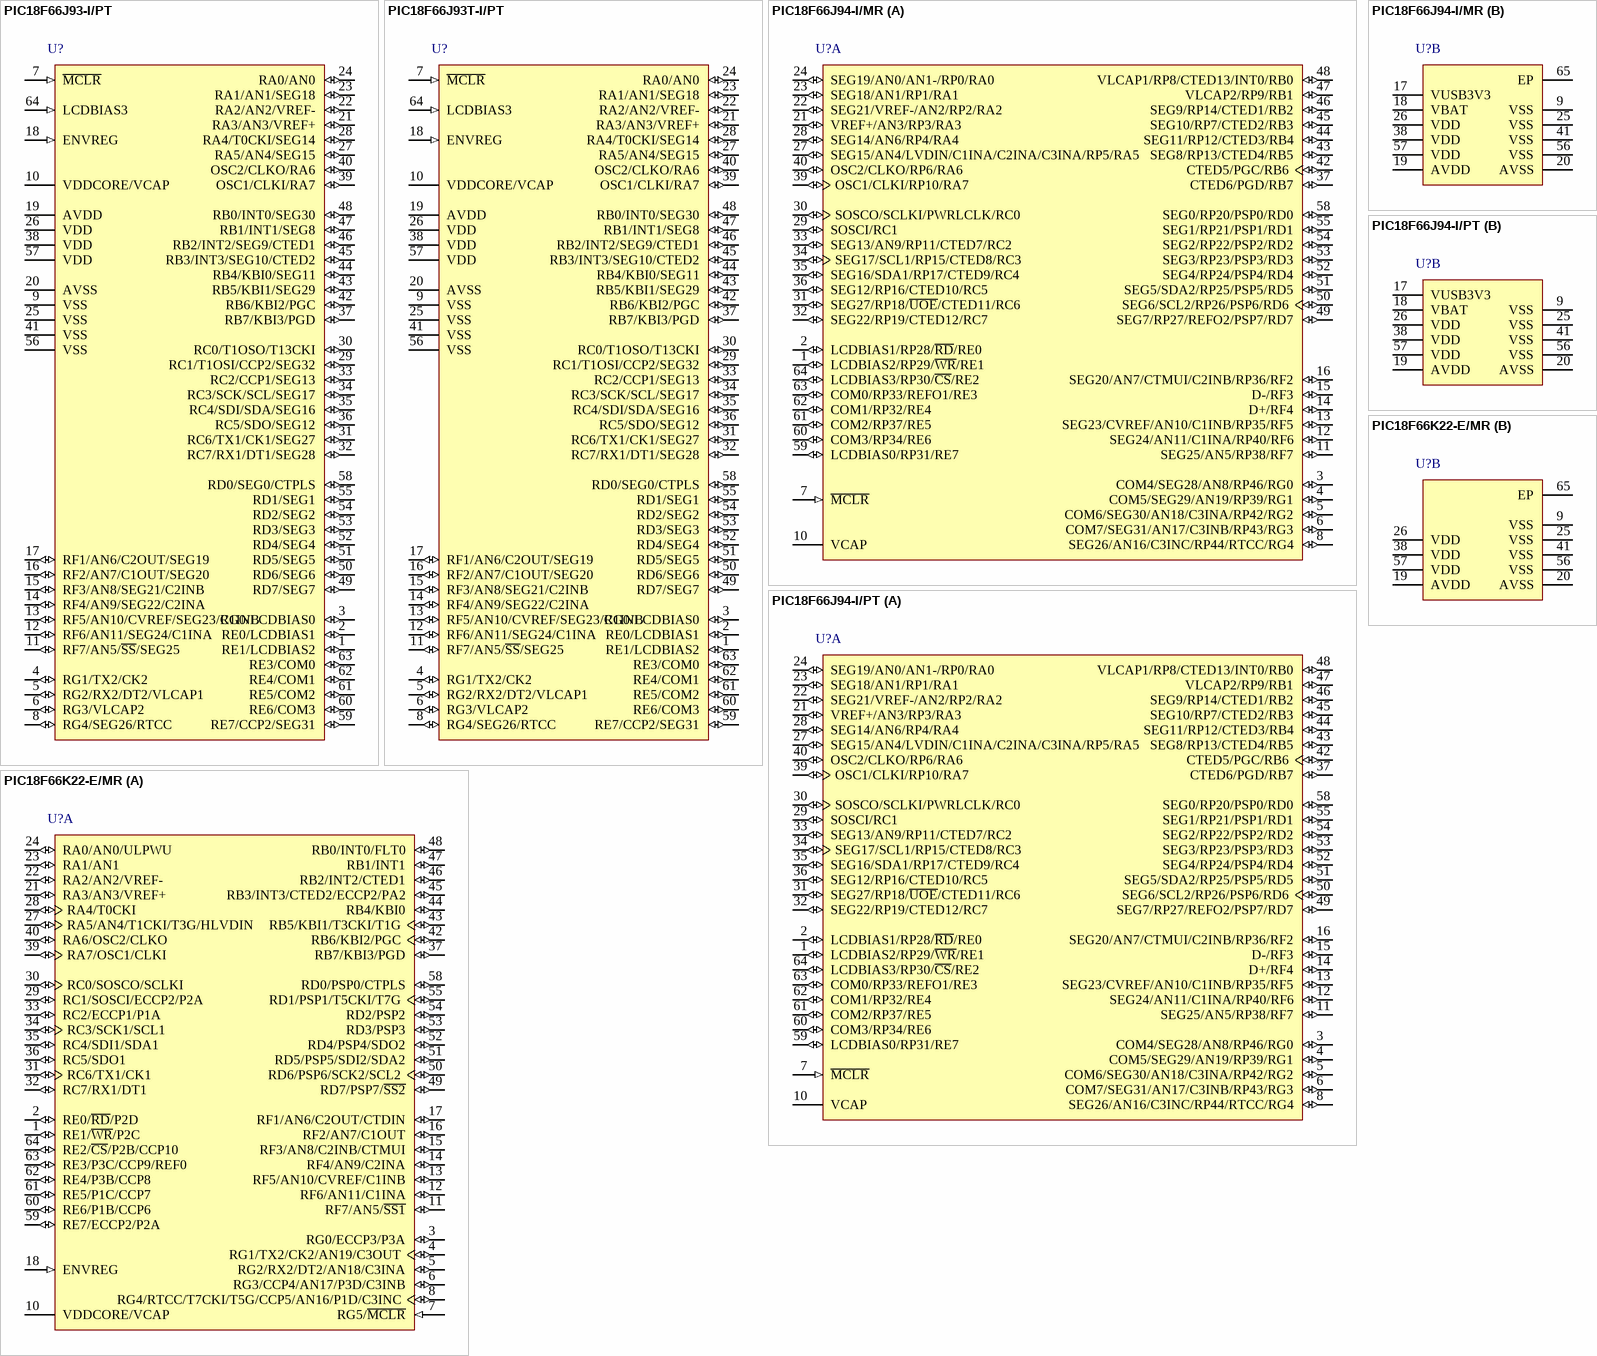
[diagram p51: symbols PIC18F66J93-I/PT to PIC18F66K22-E/MR]

## PIC18F66J93-I/PT
designator U?
High Performance Microcontroller with LCD Driver, 12-Bit A/D and nanoWatt Technology, 64-pin TQFP, Industrial Temperature; Manufacturer: Microchip; PartNumber: PIC18F66J93-I/PT; DatasheetVersion: revA, Jun-2009; PackageVersion: C04-085B, 12/2012; PackageReference: TQFP-PT64; PackageDescription: 64-Lead Plastic Thin Quad FlatPack, 10 x 10 mm Body, 0.5 mm Pitch; ComponentLink1Description: Manufacturer URL; ComponentLink1URL: http://www.microchip.com/; ComponentLink2Description: Datasheet; ComponentLink2URL: http://ww1.microchip.com/downloads/en/DeviceDoc/39948a.pdf; ComponentLink3Description: Package Specification; ComponentLink3URL: http://www.microchip.com/stellent/groups/techpub_sg/documents/packagingspec/en012702.pdf
footprint MCHP-TQFP-PT64_N (TQFP, 64-Leads, Body 10x10mm, Pitch 0.5mm, IPC Medium Density)
footprint MCHP-TQFP-PT64_L (TQFP, 64-Leads, Body 10x10mm, Pitch 0.5mm, IPC High Density)
footprint MCHP-TQFP-PT64_M (TQFP, 64-Leads, Body 10x10mm, Pitch 0.5mm, IPC Low Density)
pins: 1 RE1/LCDBIAS2 (io), 2 RE0/LCDBIAS1 (io), 3 RG0/LCDBIAS0 (io), 4 RG1/TX2/CK2 (io), 5 RG2/RX2/DT2/VLCAP1 (io), 6 RG3/VLCAP2 (io), 7 ~{MCLR} (in), 8 RG4/SEG26/RTCC (io), 9 VSS (power), 10 VDDCORE/VCAP (power), 11 RF7/AN5/~{SS}/SEG25 (io), 12 RF6/AN11/SEG24/C1INA (io), 13 RF5/AN10/CVREF/SEG23/C1INB (io), 14 RF4/AN9/SEG22/C2INA (io), 15 RF3/AN8/SEG21/C2INB (io), 16 RF2/AN7/C1OUT/SEG20 (io), 17 RF1/AN6/C2OUT/SEG19 (io), 18 ENVREG (in), 19 AVDD (power), 20 AVSS (power), 21 RA3/AN3/VREF+ (io), 22 RA2/AN2/VREF- (io), 23 RA1/AN1/SEG18 (io), 24 RA0/AN0 (io), 25 VSS (power), 26 VDD (power), 27 RA5/AN4/SEG15 (io), 28 RA4/T0CKI/SEG14 (io), 29 RC1/T1OSI/CCP2/SEG32 (io), 30 RC0/T1OSO/T13CKI (io), 31 RC6/TX1/CK1/SEG27 (io), 32 RC7/RX1/DT1/SEG28 (io), 33 RC2/CCP1/SEG13 (io), 34 RC3/SCK/SCL/SEG17 (io), 35 RC4/SDI/SDA/SEG16 (io), 36 RC5/SDO/SEG12 (io), 37 RB7/KBI3/PGD (io), 38 VDD (power), 39 OSC1/CLKI/RA7 (io), 40 OSC2/CLKO/RA6 (io), 41 VSS (power), 42 RB6/KBI2/PGC (io), 43 RB5/KBI1/SEG29 (io), 44 RB4/KBI0/SEG11 (io), 45 RB3/INT3/SEG10/CTED2 (io), 46 RB2/INT2/SEG9/CTED1 (io), 47 RB1/INT1/SEG8 (io), 48 RB0/INT0/SEG30 (io), 49 RD7/SEG7 (io), 50 RD6/SEG6 (io), 51 RD5/SEG5 (io), 52 RD4/SEG4 (io), 53 RD3/SEG3 (io), 54 RD2/SEG2 (io), 55 RD1/SEG1 (io), 56 VSS (power), 57 VDD (power), 58 RD0/SEG0/CTPLS (io), 59 RE7/CCP2/SEG31 (io), 60 RE6/COM3 (io), 61 RE5/COM2 (io), 62 RE4/COM1 (io), 63 RE3/COM0 (io), 64 LCDBIAS3 (in)

## PIC18F66J93T-I/PT
designator U?
High Performance Microcontroller with LCD Driver, 12-Bit A/D and nanoWatt Technology, 64-pin TQFP, Industrial Temperature, Tape and Reel; Manufacturer: Microchip; PartNumber: PIC18F66J93T-I/PT; DatasheetVersion: revA, Jun-2009; PackageVersion: C04-085B, 12/2012; PackageReference: TQFP-PT64; PackageDescription: 64-Lead Plastic Thin Quad FlatPack, 10 x 10 mm Body, 0.5 mm Pitch; ComponentLink1Description: Manufacturer URL; ComponentLink1URL: http://www.microchip.com/; ComponentLink2Description: Datasheet; ComponentLink2URL: http://ww1.microchip.com/downloads/en/DeviceDoc/39948a.pdf; ComponentLink3Description: Package Specification; ComponentLink3URL: http://www.microchip.com/stellent/groups/techpub_sg/documents/packagingspec/en012702.pdf
footprint MCHP-TQFP-PT64_N (TQFP, 64-Leads, Body 10x10mm, Pitch 0.5mm, IPC Medium Density)
footprint MCHP-TQFP-PT64_L (TQFP, 64-Leads, Body 10x10mm, Pitch 0.5mm, IPC High Density)
footprint MCHP-TQFP-PT64_M (TQFP, 64-Leads, Body 10x10mm, Pitch 0.5mm, IPC Low Density)
pins: 1 RE1/LCDBIAS2 (io), 2 RE0/LCDBIAS1 (io), 3 RG0/LCDBIAS0 (io), 4 RG1/TX2/CK2 (io), 5 RG2/RX2/DT2/VLCAP1 (io), 6 RG3/VLCAP2 (io), 7 ~{MCLR} (in), 8 RG4/SEG26/RTCC (io), 9 VSS (power), 10 VDDCORE/VCAP (power), 11 RF7/AN5/~{SS}/SEG25 (io), 12 RF6/AN11/SEG24/C1INA (io), 13 RF5/AN10/CVREF/SEG23/C1INB (io), 14 RF4/AN9/SEG22/C2INA (io), 15 RF3/AN8/SEG21/C2INB (io), 16 RF2/AN7/C1OUT/SEG20 (io), 17 RF1/AN6/C2OUT/SEG19 (io), 18 ENVREG (in), 19 AVDD (power), 20 AVSS (power), 21 RA3/AN3/VREF+ (io), 22 RA2/AN2/VREF- (io), 23 RA1/AN1/SEG18 (io), 24 RA0/AN0 (io), 25 VSS (power), 26 VDD (power), 27 RA5/AN4/SEG15 (io), 28 RA4/T0CKI/SEG14 (io), 29 RC1/T1OSI/CCP2/SEG32 (io), 30 RC0/T1OSO/T13CKI (io), 31 RC6/TX1/CK1/SEG27 (io), 32 RC7/RX1/DT1/SEG28 (io), 33 RC2/CCP1/SEG13 (io), 34 RC3/SCK/SCL/SEG17 (io), 35 RC4/SDI/SDA/SEG16 (io), 36 RC5/SDO/SEG12 (io), 37 RB7/KBI3/PGD (io), 38 VDD (power), 39 OSC1/CLKI/RA7 (io), 40 OSC2/CLKO/RA6 (io), 41 VSS (power), 42 RB6/KBI2/PGC (io), 43 RB5/KBI1/SEG29 (io), 44 RB4/KBI0/SEG11 (io), 45 RB3/INT3/SEG10/CTED2 (io), 46 RB2/INT2/SEG9/CTED1 (io), 47 RB1/INT1/SEG8 (io), 48 RB0/INT0/SEG30 (io), 49 RD7/SEG7 (io), 50 RD6/SEG6 (io), 51 RD5/SEG5 (io), 52 RD4/SEG4 (io), 53 RD3/SEG3 (io), 54 RD2/SEG2 (io), 55 RD1/SEG1 (io), 56 VSS (power), 57 VDD (power), 58 RD0/SEG0/CTPLS (io), 59 RE7/CCP2/SEG31 (io), 60 RE6/COM3 (io), 61 RE5/COM2 (io), 62 RE4/COM1 (io), 63 RE3/COM0 (io), 64 LCDBIAS3 (in)

## PIC18F66J94-I/MR
designator U?
8-Bit LCD Flash Microcontroller with USB and XLP Technology, 64 MHz, 51 I/O, -40 to 85 degC, 64-pin QFN (MR64), Tube; Manufacturer: Microchip; PartNumber: PIC18F66J94-I/MR; # of A/D Channels: 16; Digital Communication: 4 -A/E/USART, 3 -MSSP(SPI/I2C); I/O Pins: 51; Internal Oscillator: 8 MHz, 31 kHz; Max. CPU Speed MHz: 64; Operation Voltage Range: 2V - 3.6V; Program Memory KWords: 32; RAM: 3862; Timers: 0 - 8-bit, 4 - 16-bit; DatasheetVersion: Rev. A; PackageVersion: C04-213A, 04/2013; PackageReference: QFN-MR64; PackageDescription: 64-Lead Plastic Quad Flat, No Lead Package, Body 9 x 9 mm, Pitch 0.5 mm; Supplier 1: Digi-Key; Supplier Part Number 1: PIC18F66J94-I/MR-ND; Supplier 2: Newark; Supplier Part Number 2: 06W2990; Supplier 3: Mouser; Supplier Part Number 3: 579-PIC18F66J94-I/MR; Memory Type: Flash; Packing: TUBE; Program Memory KBytes: 64; RoHS: TRUE; Mounting Technology: Surface Mount; ComponentLink1Description: Datasheet; ComponentLink1URL: http://ww1.microchip.com/downloads/en/DeviceDoc/30575A.pdf; ComponentLink2Description: Package Specification; ComponentLink2URL: http://www.microchip.com/stellent/groups/techpub_sg/documents/packagingspec/en012702.pdf; ComponentLink3Description: URL Link1; ComponentLink3URL: Product URL:http://www.microchip.com/datasheet/PIC18F66J94
footprint MCHP-QFN-MR64-7700X7700TP_N (QFN, 64-Leads, Body 9x9mm, Pitch 0.5mm, Thermal Pad 7.7x7.7mm, IPC Medium Density)
footprint MCHP-QFN-MR64-7700X7700TP_L (QFN, 64-Leads, Body 9x9mm, Pitch 0.5mm, Thermal Pad 7.7x7.7mm, IPC High Density)
footprint MCHP-QFN-MR64-7700X7700TP_M (QFN, 64-Leads, Body 9x9mm, Pitch 0.5mm, Thermal Pad 7.7x7.7mm, IPC Low Density)
part A pins: 1 LCDBIAS2/RP29/~{WR}/RE1 (io), 2 LCDBIAS1/RP28/~{RD}/RE0 (io), 3 COM4/SEG28/AN8/RP46/RG0 (io), 4 COM5/SEG29/AN19/RP39/RG1 (io), 5 COM6/SEG30/AN18/C3INA/RP42/RG2 (io), 6 COM7/SEG31/AN17/C3INB/RP43/RG3 (io), 7 ~{MCLR} (in) "Master Clear (input) or programming voltage (input).This pin is an active-low Reset to the device.", 8 SEG26/AN16/C3INC/RP44/RTCC/RG4 (io), 10 VCAP "External filter capacitor connection (regulator enabled/disabled).", 11 SEG25/AN5/RP38/RF7 (io), 12 SEG24/AN11/C1INA/RP40/RF6 (io), 13 SEG23/CVREF/AN10/C1INB/RP35/RF5 (io), 14 D+/RF4 (io), 15 D-/RF3 (io), 16 SEG20/AN7/CTMUI/C2INB/RP36/RF2 (io), 21 VREF+/AN3/RP3/RA3 (io), 22 SEG21/VREF-/AN2/RP2/RA2 (io), 23 SEG18/AN1/RP1/RA1 (io), 24 SEG19/AN0/AN1-/RP0/RA0 (io), 27 SEG15/AN4/LVDIN/C1INA/C2INA/C3INA/RP5/RA5 (io), 28 SEG14/AN6/RP4/RA4 (io), 29 SOSCI/RC1 (io), 30 SOSCO/SCLKI/PWRLCLK/RC0 (io), 31 SEG27/RP18/~{UOE}/CTED11/RC6 (io), 32 SEG22/RP19/CTED12/RC7 (io), 33 SEG13/AN9/RP11/CTED7/RC2 (io), 34 SEG17/SCL1/RP15/CTED8/RC3 (io), 35 SEG16/SDA1/RP17/CTED9/RC4 (io), 36 SEG12/RP16/CTED10/RC5 (io), 37 CTED6/PGD/RB7 (io), 39 OSC1/CLKI/RP10/RA7 (io), 40 OSC2/CLKO/RP6/RA6 (io), 42 CTED5/PGC/RB6 (io), 43 SEG8/RP13/CTED4/RB5 (io), 44 SEG11/RP12/CTED3/RB4 (io), 45 SEG10/RP7/CTED2/RB3 (io), 46 SEG9/RP14/CTED1/RB2 (io), 47 VLCAP2/RP9/RB1 (io), 48 VLCAP1/RP8/CTED13/INT0/RB0 (io), 49 SEG7/RP27/REFO2/PSP7/RD7 (io), 50 SEG6/SCL2/RP26/PSP6/RD6 (io), 51 SEG5/SDA2/RP25/PSP5/RD5 (io), 52 SEG4/RP24/PSP4/RD4 (io), 53 SEG3/RP23/PSP3/RD3 (io), 54 SEG2/RP22/PSP2/RD2 (io), 55 SEG1/RP21/PSP1/RD1 (io), 58 SEG0/RP20/PSP0/RD0 (io), 59 LCDBIAS0/RP31/RE7 (io), 60 COM3/RP34/RE6 (io), 61 COM2/RP37/RE5 (io), 62 COM1/RP32/RE4 (io), 63 COM0/RP33/REFO1/RE3 (io), 64 LCDBIAS3/RP30/~{CS}/RE2 (io)
part B pins: 9 VSS (power) "Ground reference for logic and I/O pins.", 17 VUSB3V3 (power) "USB voltage input pin.", 18 VBAT (power), 19 AVDD (power) "Positive supply for analog modules", 20 AVSS (power) "Ground reference for analog modules", 25 VSS (power) "Ground reference for logic and I/O pins.", 26 VDD (power) "Positive supply for logic and I/O pins.", 38 VDD (power) "Positive supply for logic and I/O pins.", 41 VSS (power) "Ground reference for logic and I/O pins.", 56 VSS (power) "Ground reference for logic and I/O pins.", 57 VDD (power) "Positive supply for logic and I/O pins.", 65 EP

## PIC18F66J94-I/PT
designator U?
8-Bit LCD Flash Microcontroller with USB and XLP Technology, 64 MHz, 51 I/O, -40 to 85 degC, 64-pin TQFP (PT64), Tray; Manufacturer: Microchip; PartNumber: PIC18F66J94-I/PT; # of A/D Channels: 16; Digital Communication: 4 -A/E/USART, 3 -MSSP(SPI/I2C); I/O Pins: 51; Internal Oscillator: 8 MHz, 31 kHz; Max. CPU Speed MHz: 64; Operation Voltage Range: 2V - 3.6V; Program Memory KWords: 32; RAM: 3862; Timers: 0 - 8-bit, 4 - 16-bit; DatasheetVersion: Rev. A; PackageVersion: C04-085B, 12/2012; PackageReference: TQFP-PT64; PackageDescription: 64-Lead Plastic Thin Quad FlatPack, 10 x 10 mm Body, 0.5 mm Pitch; Supplier 1: Digi-Key; Supplier Part Number 1: PIC18F66J94-I/PT-ND; Supplier 2: Newark; Supplier Part Number 2: 06W2991; Supplier 3: Mouser; Supplier Part Number 3: 579-PIC18F66J94-I/PT; Memory Type: Flash; Packing: TRAY; Program Memory KBytes: 64; RoHS: TRUE; Mounting Technology: Surface Mount; ComponentLink1Description: Datasheet; ComponentLink1URL: http://ww1.microchip.com/downloads/en/DeviceDoc/30575A.pdf; ComponentLink2Description: Package Specification; ComponentLink2URL: http://www.microchip.com/stellent/groups/techpub_sg/documents/packagingspec/en012702.pdf; ComponentLink3Description: URL Link1; ComponentLink3URL: Product URL:http://www.microchip.com/datasheet/PIC18F66J94
footprint MCHP-TQFP-PT64_N (TQFP, 64-Leads, Body 10x10mm, Pitch 0.5mm, IPC Medium Density)
footprint MCHP-TQFP-PT64_L (TQFP, 64-Leads, Body 10x10mm, Pitch 0.5mm, IPC High Density)
footprint MCHP-TQFP-PT64_M (TQFP, 64-Leads, Body 10x10mm, Pitch 0.5mm, IPC Low Density)
part A pins: 1 LCDBIAS2/RP29/~{WR}/RE1 (io), 2 LCDBIAS1/RP28/~{RD}/RE0 (io), 3 COM4/SEG28/AN8/RP46/RG0 (io), 4 COM5/SEG29/AN19/RP39/RG1 (io), 5 COM6/SEG30/AN18/C3INA/RP42/RG2 (io), 6 COM7/SEG31/AN17/C3INB/RP43/RG3 (io), 7 ~{MCLR} (in) "Master Clear (input) or programming voltage (input).This pin is an active-low Reset to the device.", 8 SEG26/AN16/C3INC/RP44/RTCC/RG4 (io), 10 VCAP "External filter capacitor connection (regulator enabled/disabled).", 11 SEG25/AN5/RP38/RF7 (io), 12 SEG24/AN11/C1INA/RP40/RF6 (io), 13 SEG23/CVREF/AN10/C1INB/RP35/RF5 (io), 14 D+/RF4 (io), 15 D-/RF3 (io), 16 SEG20/AN7/CTMUI/C2INB/RP36/RF2 (io), 21 VREF+/AN3/RP3/RA3 (io), 22 SEG21/VREF-/AN2/RP2/RA2 (io), 23 SEG18/AN1/RP1/RA1 (io), 24 SEG19/AN0/AN1-/RP0/RA0 (io), 27 SEG15/AN4/LVDIN/C1INA/C2INA/C3INA/RP5/RA5 (io), 28 SEG14/AN6/RP4/RA4 (io), 29 SOSCI/RC1 (io), 30 SOSCO/SCLKI/PWRLCLK/RC0 (io), 31 SEG27/RP18/~{UOE}/CTED11/RC6 (io), 32 SEG22/RP19/CTED12/RC7 (io), 33 SEG13/AN9/RP11/CTED7/RC2 (io), 34 SEG17/SCL1/RP15/CTED8/RC3 (io), 35 SEG16/SDA1/RP17/CTED9/RC4 (io), 36 SEG12/RP16/CTED10/RC5 (io), 37 CTED6/PGD/RB7 (io), 39 OSC1/CLKI/RP10/RA7 (io), 40 OSC2/CLKO/RP6/RA6 (io), 42 CTED5/PGC/RB6 (io), 43 SEG8/RP13/CTED4/RB5 (io), 44 SEG11/RP12/CTED3/RB4 (io), 45 SEG10/RP7/CTED2/RB3 (io), 46 SEG9/RP14/CTED1/RB2 (io), 47 VLCAP2/RP9/RB1 (io), 48 VLCAP1/RP8/CTED13/INT0/RB0 (io), 49 SEG7/RP27/REFO2/PSP7/RD7 (io), 50 SEG6/SCL2/RP26/PSP6/RD6 (io), 51 SEG5/SDA2/RP25/PSP5/RD5 (io), 52 SEG4/RP24/PSP4/RD4 (io), 53 SEG3/RP23/PSP3/RD3 (io), 54 SEG2/RP22/PSP2/RD2 (io), 55 SEG1/RP21/PSP1/RD1 (io), 58 SEG0/RP20/PSP0/RD0 (io), 59 LCDBIAS0/RP31/RE7 (io), 60 COM3/RP34/RE6 (io), 61 COM2/RP37/RE5 (io), 62 COM1/RP32/RE4 (io), 63 COM0/RP33/REFO1/RE3 (io), 64 LCDBIAS3/RP30/~{CS}/RE2 (io)
part B pins: 9 VSS (power) "Ground reference for logic and I/O pins.", 17 VUSB3V3 (power) "USB voltage input pin.", 18 VBAT (power), 19 AVDD (power) "Positive supply for analog modules", 20 AVSS (power) "Ground reference for analog modules", 25 VSS (power) "Ground reference for logic and I/O pins.", 26 VDD (power) "Positive supply for logic and I/O pins.", 38 VDD (power) "Positive supply for logic and I/O pins.", 41 VSS (power) "Ground reference for logic and I/O pins.", 56 VSS (power) "Ground reference for logic and I/O pins.", 57 VDD (power) "Positive supply for logic and I/O pins."

## PIC18F66K22-E/MR
designator U?
High-Performance, 1-Mbit Enhanced Flash MCU with 12-Bit A/D and nanoWatt XLP Technology, 64 MHz, 53 I/O, -40 to 125 degC, 64-pin QFN (MR64), Tube; Manufacturer: Microchip; PartNumber: PIC18F66K22-E/MR; # of A/D Channels: 16; Digital Communication: 2 -A/E/USART, 2 -MSSP(SPI/I2C); EEPROM Data Memory (bytes): 1024; I/O Pins: 53; Internal Oscillator: 16 MHz, 31 kHz; Max. CPU Speed MHz: 64; Operation Voltage Range: 1.8V - 5.5V; Program Memory KWords: 32; RAM: 4000; Timers: 6 - 8-bit, 5 - 16-bit; DatasheetVersion: Rev. D; PackageVersion: C04-213A, 04/2013; PackageReference: QFN-MR64; PackageDescription: 64-Lead Plastic Quad Flat, No Lead Package, Body 9 x 9 mm, Pitch 0.5 mm; Supplier 1: Digi-Key; Supplier Part Number 1: PIC18F66K22-E/MR-ND; Supplier 2: Mouser; Supplier Part Number 2: 579-PIC18F66K22-E/MR; Memory Type: Flash; Packing: TUBE; Program Memory KBytes: 64; RoHS: TRUE; Mounting Technology: Surface Mount; ComponentLink1Description: Datasheet; ComponentLink1URL: http://ww1.microchip.com/downloads/en/DeviceDoc/39960d.pdf; ComponentLink2Description: Package Specification; ComponentLink2URL: http://www.microchip.com/stellent/groups/techpub_sg/documents/packagingspec/en012702.pdf; ComponentLink3Description: URL Link1; ComponentLink3URL: Product URL:http://www.microchip.com/datasheet/PIC18F66K22
footprint MCHP-QFN-MR64-7700X7700TP_N (QFN, 64-Leads, Body 9x9mm, Pitch 0.5mm, Thermal Pad 7.7x7.7mm, IPC Medium Density)
footprint MCHP-QFN-MR64-7700X7700TP_L (QFN, 64-Leads, Body 9x9mm, Pitch 0.5mm, Thermal Pad 7.7x7.7mm, IPC High Density)
footprint MCHP-QFN-MR64-7700X7700TP_M (QFN, 64-Leads, Body 9x9mm, Pitch 0.5mm, Thermal Pad 7.7x7.7mm, IPC Low Density)
part A pins: 1 RE1/~{WR}/P2C (io), 2 RE0/~{RD}/P2D (io), 3 RG0/ECCP3/P3A (io), 4 RG1/TX2/CK2/AN19/C3OUT (io), 5 RG2/RX2/DT2/AN18/C3INA (io), 6 RG3/CCP4/AN17/P3D/C3INB (io), 7 RG5/~{MCLR} (in), 8 RG4/RTCC/T7CKI/T5G/CCP5/AN16/P1D/C3INC (io), 10 VDDCORE/VCAP (power), 11 RF7/AN5/~{SS1} (io), 12 RF6/AN11/C1INA (io), 13 RF5/AN10/CVREF/C1INB (io), 14 RF4/AN9/C2INA (io), 15 RF3/AN8/C2INB/CTMUI (io), 16 RF2/AN7/C1OUT (io), 17 RF1/AN6/C2OUT/CTDIN (io), 18 ENVREG (in) "Enable for on-chip voltage regulator.", 21 RA3/AN3/VREF+ (io), 22 RA2/AN2/VREF- (io), 23 RA1/AN1 (io), 24 RA0/AN0/ULPWU (io), 27 RA5/AN4/T1CKI/T3G/HLVDIN (io), 28 RA4/T0CKI (io), 29 RC1/SOSCI/ECCP2/P2A (io), 30 RC0/SOSCO/SCLKI (io), 31 RC6/TX1/CK1 (io), 32 RC7/RX1/DT1 (io), 33 RC2/ECCP1/P1A (io), 34 RC3/SCK1/SCL1 (io), 35 RC4/SDI1/SDA1 (io), 36 RC5/SDO1 (io), 37 RB7/KBI3/PGD (io), 39 RA7/OSC1/CLKI (io), 40 RA6/OSC2/CLKO (io), 42 RB6/KBI2/PGC (io), 43 RB5/KBI1/T3CKI/T1G (io), 44 RB4/KBI0 (io), 45 RB3/INT3/CTED2/ECCP2/PA2 (io), 46 RB2/INT2/CTED1 (io), 47 RB1/INT1 (io), 48 RB0/INT0/FLT0 (io), 49 RD7/PSP7/~{SS2} (io), 50 RD6/PSP6/SCK2/SCL2 (io), 51 RD5/PSP5/SDI2/SDA2 (io), 52 RD4/PSP4/SDO2 (io), 53 RD3/PSP3 (io), 54 RD2/PSP2 (io), 55 RD1/PSP1/T5CKI/T7G (io), 58 RD0/PSP0/CTPLS (io), 59 RE7/ECCP2/P2A (io), 60 RE6/P1B/CCP6 (io), 61 RE5/P1C/CCP7 (io), 62 RE4/P3B/CCP8 (io), 63 RE3/P3C/CCP9/REF0 (io), 64 RE2/~{CS}/P2B/CCP10 (io)
part B pins: 9 VSS (power) "Ground reference for logic and I/O pins.", 19 AVDD (power) "Ground reference for analog modules.", 20 AVSS (power) "Positive supply for analog modules.", 25 VSS (power) "Ground reference for logic and I/O pins.", 26 VDD (power) "Positive supply for logic and I/O pins.", 38 VDD (power) "Positive supply for logic and I/O pins.", 41 VSS (power) "Ground reference for logic and I/O pins.", 56 VSS (power) "Ground reference for logic and I/O pins.", 57 VDD (power) "Positive supply for logic and I/O pins.", 65 EP

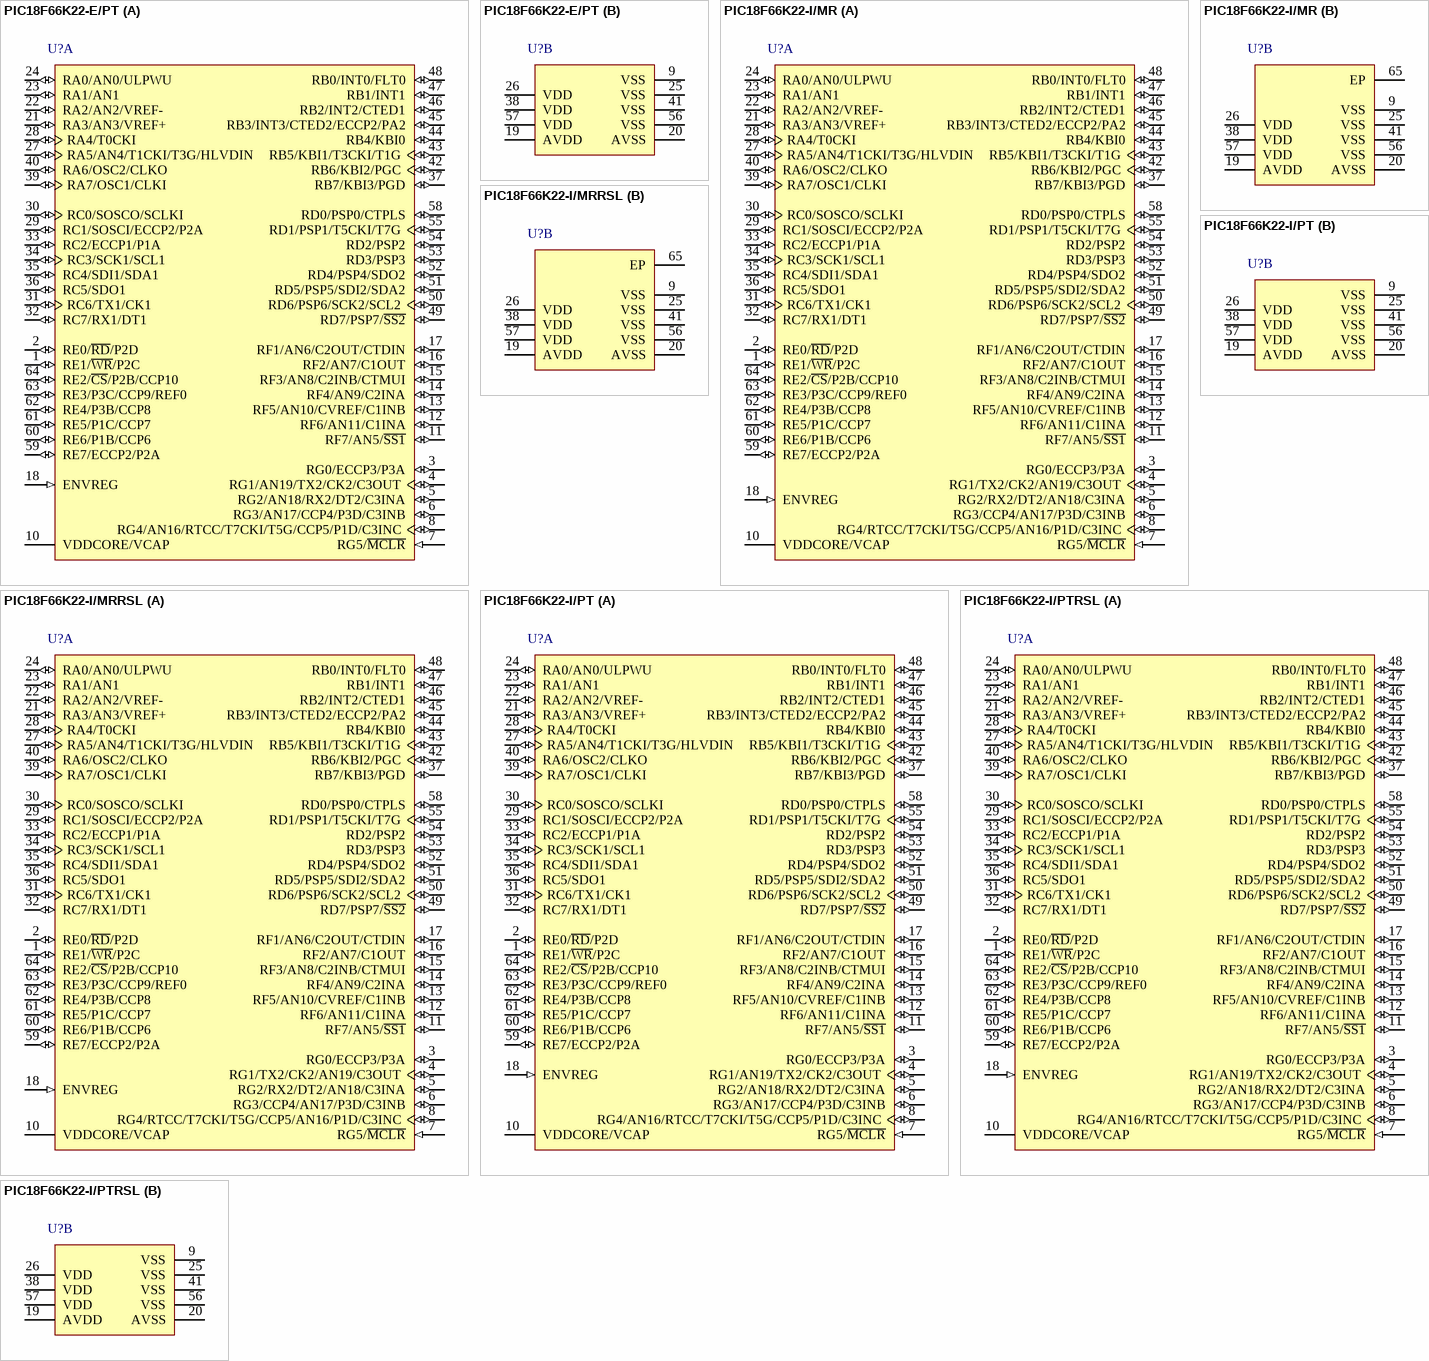
[diagram p52: symbols PIC18F66K22-E/PT to PIC18F66K22-I/PTRSL]

## PIC18F66K22-E/PT
designator U?
High-Performance, 1-Mbit Enhanced Flash MCU with 12-Bit A/D and nanoWatt XLP Technology, 64 MHz, 53 I/O, -40 to 125 degC, 64-pin TQFP (PT64), Tray; Manufacturer: Microchip; PartNumber: PIC18F66K22-E/PT; # of A/D Channels: 16; Digital Communication: 2 -A/E/USART, 2 -MSSP(SPI/I2C); EEPROM Data Memory (bytes): 1024; I/O Pins: 53; Internal Oscillator: 16 MHz, 31 kHz; Max. CPU Speed MHz: 64; Operation Voltage Range: 1.8V - 5.5V; Program Memory KWords: 32; RAM: 3862; Timers: 6 - 8-bit, 5 - 16-bit; DatasheetVersion: Rev. D; PackageVersion: C04-085B, 12/2012; PackageReference: TQFP-PT64; PackageDescription: 64-Lead Plastic Thin Quad FlatPack, 10 x 10 mm Body, 0.5 mm Pitch; Supplier 1: Digi-Key; Supplier Part Number 1: PIC18F66K22-E/PT-ND; Supplier 2: Newark; Supplier Part Number 2: 53R0275; Supplier 3: Mouser; Supplier Part Number 3: 579-PIC18F66K22-E/PT; Memory Type: Flash; Packing: TRAY; Program Memory KBytes: 64; RoHS: TRUE; Mounting Technology: Surface Mount; ComponentLink1Description: Datasheet; ComponentLink1URL: http://ww1.microchip.com/downloads/en/DeviceDoc/39960d.pdf; ComponentLink2Description: Package Specification; ComponentLink2URL: http://www.microchip.com/stellent/groups/techpub_sg/documents/packagingspec/en012702.pdf; ComponentLink3Description: URL Link1; ComponentLink3URL: Product URL:http://www.microchip.com/datasheet/PIC18F66K22
footprint MCHP-TQFP-PT64_N (TQFP, 64-Leads, Body 10x10mm, Pitch 0.5mm, IPC Medium Density)
footprint MCHP-TQFP-PT64_L (TQFP, 64-Leads, Body 10x10mm, Pitch 0.5mm, IPC High Density)
footprint MCHP-TQFP-PT64_M (TQFP, 64-Leads, Body 10x10mm, Pitch 0.5mm, IPC Low Density)
part A pins: 1 RE1/~{WR}/P2C (io), 2 RE0/~{RD}/P2D (io), 3 RG0/ECCP3/P3A (io), 4 RG1/AN19/TX2/CK2/C3OUT (io), 5 RG2/AN18/RX2/DT2/C3INA (io), 6 RG3/AN17/CCP4/P3D/C3INB (io), 7 RG5/~{MCLR} (in), 8 RG4/AN16/RTCC/T7CKI/T5G/CCP5/P1D/C3INC (io), 10 VDDCORE/VCAP (power), 11 RF7/AN5/~{SS1} (io), 12 RF6/AN11/C1INA (io), 13 RF5/AN10/CVREF/C1INB (io), 14 RF4/AN9/C2INA (io), 15 RF3/AN8/C2INB/CTMUI (io), 16 RF2/AN7/C1OUT (io), 17 RF1/AN6/C2OUT/CTDIN (io), 18 ENVREG (in) "Enable for on-chip voltage regulator.", 21 RA3/AN3/VREF+ (io), 22 RA2/AN2/VREF- (io), 23 RA1/AN1 (io), 24 RA0/AN0/ULPWU (io), 27 RA5/AN4/T1CKI/T3G/HLVDIN (io), 28 RA4/T0CKI (io), 29 RC1/SOSCI/ECCP2/P2A (io), 30 RC0/SOSCO/SCLKI (io), 31 RC6/TX1/CK1 (io), 32 RC7/RX1/DT1 (io), 33 RC2/ECCP1/P1A (io), 34 RC3/SCK1/SCL1 (io), 35 RC4/SDI1/SDA1 (io), 36 RC5/SDO1 (io), 37 RB7/KBI3/PGD (io), 39 RA7/OSC1/CLKI (io), 40 RA6/OSC2/CLKO (io), 42 RB6/KBI2/PGC (io), 43 RB5/KBI1/T3CKI/T1G (io), 44 RB4/KBI0 (io), 45 RB3/INT3/CTED2/ECCP2/PA2 (io), 46 RB2/INT2/CTED1 (io), 47 RB1/INT1 (io), 48 RB0/INT0/FLT0 (io), 49 RD7/PSP7/~{SS2} (io), 50 RD6/PSP6/SCK2/SCL2 (io), 51 RD5/PSP5/SDI2/SDA2 (io), 52 RD4/PSP4/SDO2 (io), 53 RD3/PSP3 (io), 54 RD2/PSP2 (io), 55 RD1/PSP1/T5CKI/T7G (io), 58 RD0/PSP0/CTPLS (io), 59 RE7/ECCP2/P2A (io), 60 RE6/P1B/CCP6 (io), 61 RE5/P1C/CCP7 (io), 62 RE4/P3B/CCP8 (io), 63 RE3/P3C/CCP9/REF0 (io), 64 RE2/~{CS}/P2B/CCP10 (io)
part B pins: 9 VSS (power) "Ground reference for logic and I/O pins.", 19 AVDD (power) "Ground reference for analog modules.", 20 AVSS (power) "Positive supply for analog modules.", 25 VSS (power) "Ground reference for logic and I/O pins.", 26 VDD (power) "Positive supply for logic and I/O pins.", 38 VDD (power) "Positive supply for logic and I/O pins.", 41 VSS (power) "Ground reference for logic and I/O pins.", 56 VSS (power) "Ground reference for logic and I/O pins.", 57 VDD (power) "Positive supply for logic and I/O pins."

## PIC18F66K22-I/MR
designator U?
High-Performance, 1-Mbit Enhanced Flash MCU with 12-Bit A/D and nanoWatt XLP Technology, 64 MHz, 53 I/O, -40 to 85 degC, 64-pin QFN (MR64), Tube; Manufacturer: Microchip; PartNumber: PIC18F66K22-I/MR; # of A/D Channels: 16; Digital Communication: 2 -A/E/USART, 2 -MSSP(SPI/I2C); EEPROM Data Memory (bytes): 1024; I/O Pins: 53; Internal Oscillator: 16 MHz, 31 kHz; Max. CPU Speed MHz: 64; Operation Voltage Range: 1.8V - 5.5V; Program Memory KWords: 32; RAM: 3862; Timers: 6 - 8-bit, 5 - 16-bit; DatasheetVersion: Rev. D; PackageVersion: C04-213A, 04/2013; PackageReference: QFN-MR64; PackageDescription: 64-Lead Plastic Quad Flat, No Lead Package, Body 9 x 9 mm, Pitch 0.5 mm; Supplier 1: Digi-Key; Supplier Part Number 1: PIC18F66K22-I/MR-ND; Supplier 2: Mouser; Supplier Part Number 2: N/A; Memory Type: Flash; Packing: TUBE; Program Memory KBytes: 64; RoHS: TRUE; Mounting Technology: Surface Mount; ComponentLink1Description: Datasheet; ComponentLink1URL: http://ww1.microchip.com/downloads/en/DeviceDoc/39960d.pdf; ComponentLink2Description: Package Specification; ComponentLink2URL: http://www.microchip.com/stellent/groups/techpub_sg/documents/packagingspec/en012702.pdf; ComponentLink3Description: URL Link1; ComponentLink3URL: Product URL:http://www.microchip.com/datasheet/PIC18F66K22
footprint MCHP-QFN-MR64-7700X7700TP_N (QFN, 64-Leads, Body 9x9mm, Pitch 0.5mm, Thermal Pad 7.7x7.7mm, IPC Medium Density)
footprint MCHP-QFN-MR64-7700X7700TP_L (QFN, 64-Leads, Body 9x9mm, Pitch 0.5mm, Thermal Pad 7.7x7.7mm, IPC High Density)
footprint MCHP-QFN-MR64-7700X7700TP_M (QFN, 64-Leads, Body 9x9mm, Pitch 0.5mm, Thermal Pad 7.7x7.7mm, IPC Low Density)
part A pins: 1 RE1/~{WR}/P2C (io), 2 RE0/~{RD}/P2D (io), 3 RG0/ECCP3/P3A (io), 4 RG1/TX2/CK2/AN19/C3OUT (io), 5 RG2/RX2/DT2/AN18/C3INA (io), 6 RG3/CCP4/AN17/P3D/C3INB (io), 7 RG5/~{MCLR} (in), 8 RG4/RTCC/T7CKI/T5G/CCP5/AN16/P1D/C3INC (io), 10 VDDCORE/VCAP (power), 11 RF7/AN5/~{SS1} (io), 12 RF6/AN11/C1INA (io), 13 RF5/AN10/CVREF/C1INB (io), 14 RF4/AN9/C2INA (io), 15 RF3/AN8/C2INB/CTMUI (io), 16 RF2/AN7/C1OUT (io), 17 RF1/AN6/C2OUT/CTDIN (io), 18 ENVREG (in) "Enable for on-chip voltage regulator.", 21 RA3/AN3/VREF+ (io), 22 RA2/AN2/VREF- (io), 23 RA1/AN1 (io), 24 RA0/AN0/ULPWU (io), 27 RA5/AN4/T1CKI/T3G/HLVDIN (io), 28 RA4/T0CKI (io), 29 RC1/SOSCI/ECCP2/P2A (io), 30 RC0/SOSCO/SCLKI (io), 31 RC6/TX1/CK1 (io), 32 RC7/RX1/DT1 (io), 33 RC2/ECCP1/P1A (io), 34 RC3/SCK1/SCL1 (io), 35 RC4/SDI1/SDA1 (io), 36 RC5/SDO1 (io), 37 RB7/KBI3/PGD (io), 39 RA7/OSC1/CLKI (io), 40 RA6/OSC2/CLKO (io), 42 RB6/KBI2/PGC (io), 43 RB5/KBI1/T3CKI/T1G (io), 44 RB4/KBI0 (io), 45 RB3/INT3/CTED2/ECCP2/PA2 (io), 46 RB2/INT2/CTED1 (io), 47 RB1/INT1 (io), 48 RB0/INT0/FLT0 (io), 49 RD7/PSP7/~{SS2} (io), 50 RD6/PSP6/SCK2/SCL2 (io), 51 RD5/PSP5/SDI2/SDA2 (io), 52 RD4/PSP4/SDO2 (io), 53 RD3/PSP3 (io), 54 RD2/PSP2 (io), 55 RD1/PSP1/T5CKI/T7G (io), 58 RD0/PSP0/CTPLS (io), 59 RE7/ECCP2/P2A (io), 60 RE6/P1B/CCP6 (io), 61 RE5/P1C/CCP7 (io), 62 RE4/P3B/CCP8 (io), 63 RE3/P3C/CCP9/REF0 (io), 64 RE2/~{CS}/P2B/CCP10 (io)
part B pins: 9 VSS (power) "Ground reference for logic and I/O pins.", 19 AVDD (power) "Ground reference for analog modules.", 20 AVSS (power) "Positive supply for analog modules.", 25 VSS (power) "Ground reference for logic and I/O pins.", 26 VDD (power) "Positive supply for logic and I/O pins.", 38 VDD (power) "Positive supply for logic and I/O pins.", 41 VSS (power) "Ground reference for logic and I/O pins.", 56 VSS (power) "Ground reference for logic and I/O pins.", 57 VDD (power) "Positive supply for logic and I/O pins.", 65 EP